# Altium schematic symbol library analogmushroom.SchLib: 107 symbols (part 2 of 2)
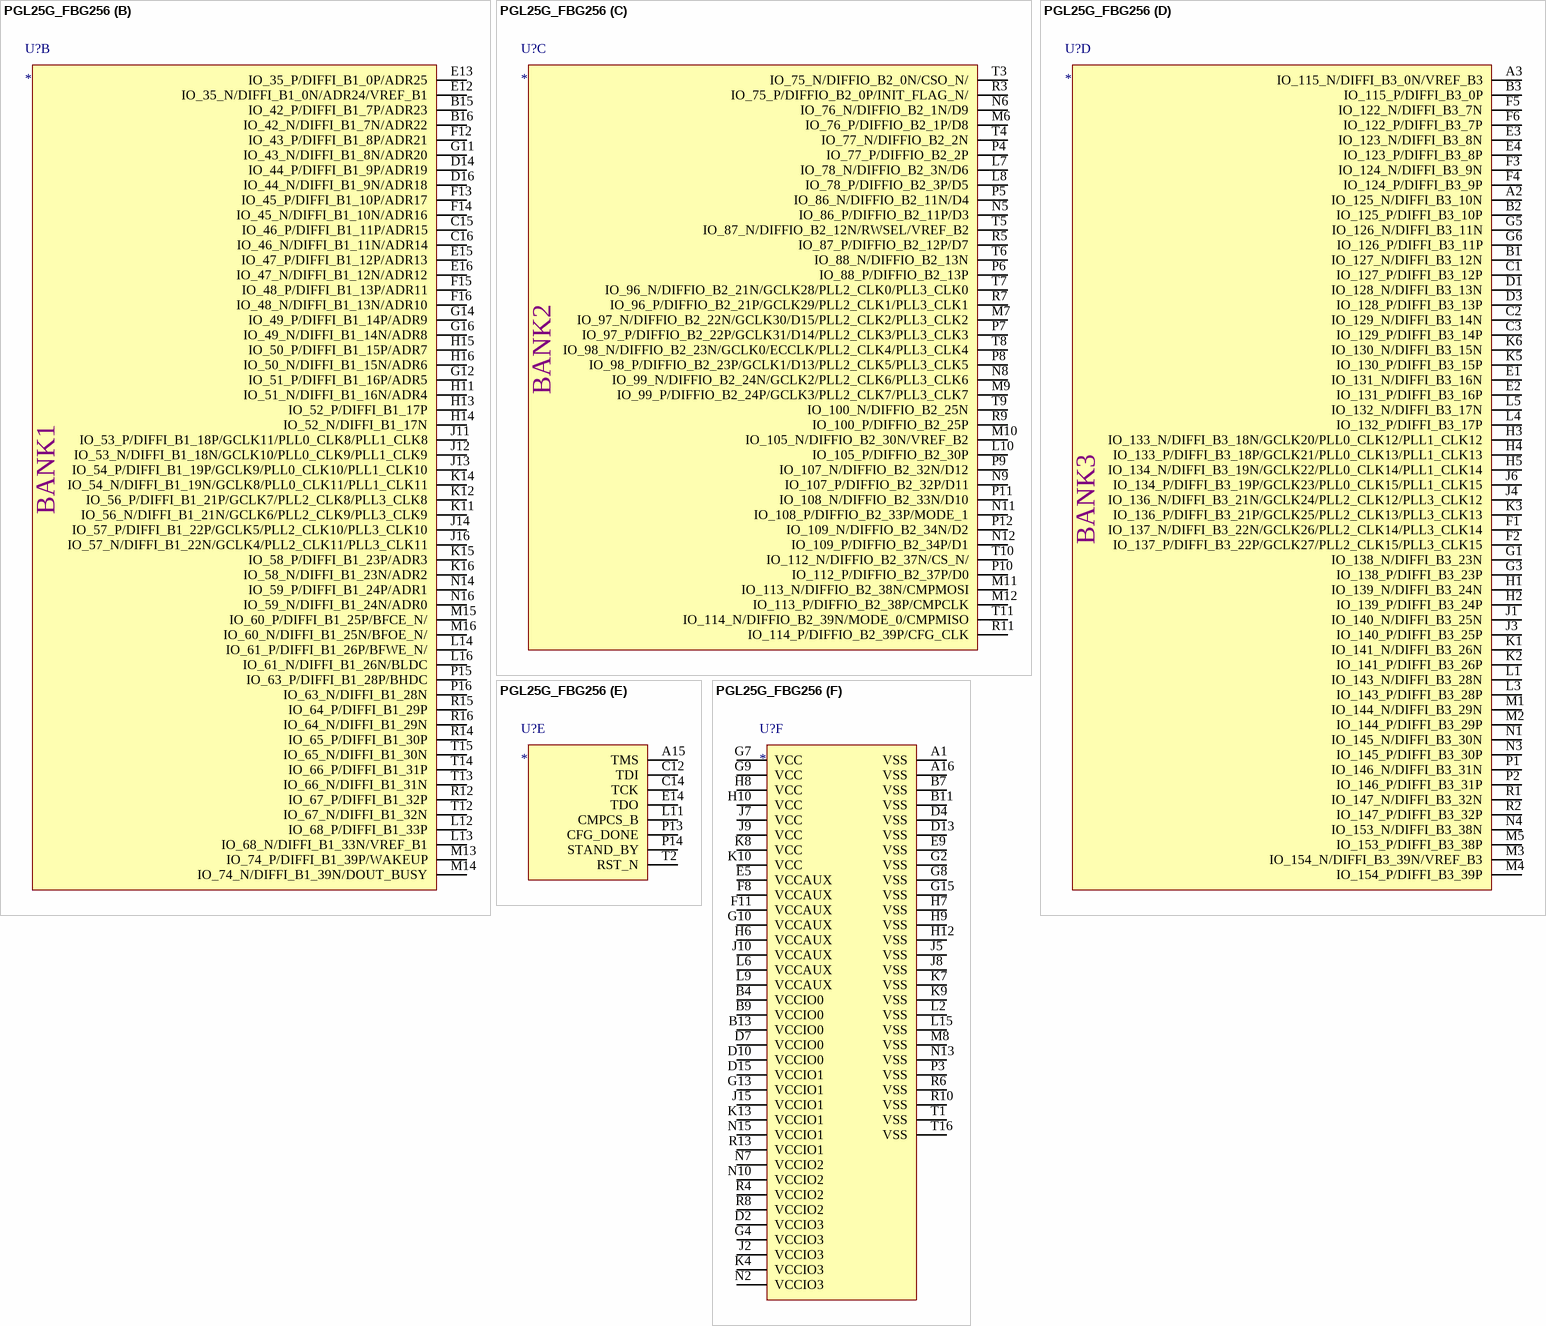
[diagram p17: symbol PGL25G_FBG256]

## PGL25G_FBG256
designator U?
footprint BGA17x17-256 (BGA, 256-Leads, Body 17.00x17.00mmx1.43mm, Pitch 1.00mm)
part A pins: A4 IO_1_N/DIFFIO_B0_0N/VREF_B0, A5 IO_2_N/DIFFIO_B0_1N, A6 IO_4_N/DIFFIO_B0_3N, A7 IO_6_N/DIFFIO_B0_5N, A8 IO_15_N/DIFFIO_B0_14N, A9 IO_16_N/DIFFIO_B0_15N/GCLK18/PLL0_CLK1/PLL1_CLK1, A10 IO_17_N/DIFFIO_B0_16N/GCLK16/PLL0_CLK3/PLL1_CLK3, A11 IO_21_N/DIFFIO_B0_20N, A12 IO_30_N/DIFFIO_B0_29N/VREF_B0, A13 IO_31_N/DIFFIO_B0_30N/STB_CTRL6, A14 IO_33_N/DIFFIO_B0_32N/STB_CTRL2, B5 IO_2_P/DIFFIO_B0_1P, B6 IO_4_P/DIFFIO_B0_3P, B8 IO_15_P/DIFFIO_B0_14P, B10 IO_17_P/DIFFIO_B0_16P/GCLK17/PLL0_CLK2/PLL1_CLK2, B12 IO_30_P/DIFFIO_B0_29P, B14 IO_33_P/DIFFIO_B0_32P/STB_CTRL3, C4 IO_1_P/DIFFIO_B0_0P/IO_STATUS_C, C5 IO_3_N/DIFFIO_B0_2N, C6 IO_7_N/DIFFIO_B0_6N, C7 IO_6_P/DIFFIO_B0_5P, C8 IO_20_N/DIFFIO_B0_19N/VREF_B0, C9 IO_16_P/DIFFIO_B0_15P/GCLK19/PLL0_CLK0/PLL1_CLK0, C10 IO_19_N/DIFFIO_B0_18N/GCLK12/PLL0_CLK7/PLL1_CLK7, C11 IO_21_P/DIFFIO_B0_20P, C13 IO_31_P/DIFFIO_B0_30P/STB_CTRL7, D5 IO_3_P/DIFFIO_B0_2P, D6 IO_7_P/DIFFIO_B0_6P, D8 IO_20_P/DIFFIO_B0_19P, D9 IO_22_N/DIFFIO_B0_21N, D11 IO_34_P/DIFFIO_B0_33P/STB_CTRL1, D12 IO_34_N/DIFFIO_B0_33N/STB_CTRL0, E6 IO_5_N/DIFFIO_B0_4N, E7 IO_18_P/DIFFIO_B0_17P/GCLK15/PLL0_CLK4/PLL1_CLK4, E8 IO_18_N/DIFFIO_B0_17N/GCLK14/PLL0_CLK5/PLL1_CLK5, E10 IO_19_P/DIFFIO_B0_18P/GCLK13/PLL0_CLK6/PLL1_CLK6, E11 IO_32_N/DIFFIO_B0_31N/STB_CTRL4, F7 IO_5_P/DIFFIO_B0_4P, F9 IO_22_P/DIFFIO_B0_21P, F10 IO_32_P/DIFFIO_B0_31P/STB_CTRL5
part B pins: B15 IO_42_P/DIFFI_B1_7P/ADR23, B16 IO_42_N/DIFFI_B1_7N/ADR22, C15 IO_46_P/DIFFI_B1_11P/ADR15, C16 IO_46_N/DIFFI_B1_11N/ADR14, D14 IO_44_P/DIFFI_B1_9P/ADR19, D16 IO_44_N/DIFFI_B1_9N/ADR18, E12 IO_35_N/DIFFI_B1_0N/ADR24/VREF_B1, E13 IO_35_P/DIFFI_B1_0P/ADR25, E15 IO_47_P/DIFFI_B1_12P/ADR13, E16 IO_47_N/DIFFI_B1_12N/ADR12, F12 IO_43_P/DIFFI_B1_8P/ADR21, F13 IO_45_P/DIFFI_B1_10P/ADR17, F14 IO_45_N/DIFFI_B1_10N/ADR16, F15 IO_48_P/DIFFI_B1_13P/ADR11, F16 IO_48_N/DIFFI_B1_13N/ADR10, G11 IO_43_N/DIFFI_B1_8N/ADR20, G12 IO_51_P/DIFFI_B1_16P/ADR5, G14 IO_49_P/DIFFI_B1_14P/ADR9, G16 IO_49_N/DIFFI_B1_14N/ADR8, H11 IO_51_N/DIFFI_B1_16N/ADR4, H13 IO_52_P/DIFFI_B1_17P, H14 IO_52_N/DIFFI_B1_17N, H15 IO_50_P/DIFFI_B1_15P/ADR7, H16 IO_50_N/DIFFI_B1_15N/ADR6, J11 IO_53_P/DIFFI_B1_18P/GCLK11/PLL0_CLK8/PLL1_CLK8, J12 IO_53_N/DIFFI_B1_18N/GCLK10/PLL0_CLK9/PLL1_CLK9, J13 IO_54_P/DIFFI_B1_19P/GCLK9/PLL0_CLK10/PLL1_CLK10, J14 IO_57_P/DIFFI_B1_22P/GCLK5/PLL2_CLK10/PLL3_CLK10, J16 IO_57_N/DIFFI_B1_22N/GCLK4/PLL2_CLK11/PLL3_CLK11, K11 IO_56_N/DIFFI_B1_21N/GCLK6/PLL2_CLK9/PLL3_CLK9, K12 IO_56_P/DIFFI_B1_21P/GCLK7/PLL2_CLK8/PLL3_CLK8, K14 IO_54_N/DIFFI_B1_19N/GCLK8/PLL0_CLK11/PLL1_CLK11, K15 IO_58_P/DIFFI_B1_23P/ADR3, K16 IO_58_N/DIFFI_B1_23N/ADR2, L12 IO_68_P/DIFFI_B1_33P, L13 IO_68_N/DIFFI_B1_33N/VREF_B1, L14 IO_61_P/DIFFI_B1_26P/BFWE_N/, L16 IO_61_N/DIFFI_B1_26N/BLDC, M13 IO_74_P/DIFFI_B1_39P/WAKEUP, M14 IO_74_N/DIFFI_B1_39N/DOUT_BUSY, M15 IO_60_P/DIFFI_B1_25P/BFCE_N/, M16 IO_60_N/DIFFI_B1_25N/BFOE_N/, N14 IO_59_P/DIFFI_B1_24P/ADR1, N16 IO_59_N/DIFFI_B1_24N/ADR0, P15 IO_63_P/DIFFI_B1_28P/BHDC, P16 IO_63_N/DIFFI_B1_28N, R12 IO_67_P/DIFFI_B1_32P, R14 IO_65_P/DIFFI_B1_30P, R15 IO_64_P/DIFFI_B1_29P, R16 IO_64_N/DIFFI_B1_29N, T12 IO_67_N/DIFFI_B1_32N, T13 IO_66_N/DIFFI_B1_31N, T14 IO_66_P/DIFFI_B1_31P, T15 IO_65_N/DIFFI_B1_30N
part C pins: L7 IO_78_N/DIFFIO_B2_3N/D6, L8 IO_78_P/DIFFIO_B2_3P/D5, L10 IO_105_P/DIFFIO_B2_30P, M6 IO_76_P/DIFFIO_B2_1P/D8, M7 IO_97_N/DIFFIO_B2_22N/GCLK30/D15/PLL2_CLK2/PLL3_CLK2, M9 IO_99_P/DIFFIO_B2_24P/GCLK3/PLL2_CLK7/PLL3_CLK7, M10 IO_105_N/DIFFIO_B2_30N/VREF_B2, M11 IO_113_N/DIFFIO_B2_38N/CMPMOSI, M12 IO_113_P/DIFFIO_B2_38P/CMPCLK, N5 IO_86_P/DIFFIO_B2_11P/D3, N6 IO_76_N/DIFFIO_B2_1N/D9, N8 IO_99_N/DIFFIO_B2_24N/GCLK2/PLL2_CLK6/PLL3_CLK6, N9 IO_107_P/DIFFIO_B2_32P/D11, N11 IO_108_P/DIFFIO_B2_33P/MODE_1, N12 IO_109_P/DIFFIO_B2_34P/D1, P4 IO_77_P/DIFFIO_B2_2P, P5 IO_86_N/DIFFIO_B2_11N/D4, P6 IO_88_P/DIFFIO_B2_13P, P7 IO_97_P/DIFFIO_B2_22P/GCLK31/D14/PLL2_CLK3/PLL3_CLK3, P8 IO_98_P/DIFFIO_B2_23P/GCLK1/D13/PLL2_CLK5/PLL3_CLK5, P9 IO_107_N/DIFFIO_B2_32N/D12, P10 IO_112_P/DIFFIO_B2_37P/D0, P11 IO_108_N/DIFFIO_B2_33N/D10, P12 IO_109_N/DIFFIO_B2_34N/D2, R3 IO_75_P/DIFFIO_B2_0P/INIT_FLAG_N/, R5 IO_87_P/DIFFIO_B2_12P/D7, R7 IO_96_P/DIFFIO_B2_21P/GCLK29/PLL2_CLK1/PLL3_CLK1, R9 IO_100_P/DIFFIO_B2_25P, R11 IO_114_P/DIFFIO_B2_39P/CFG_CLK, T3 IO_75_N/DIFFIO_B2_0N/CSO_N/, T4 IO_77_N/DIFFIO_B2_2N, T5 IO_87_N/DIFFIO_B2_12N/RWSEL/VREF_B2, T6 IO_88_N/DIFFIO_B2_13N, T7 IO_96_N/DIFFIO_B2_21N/GCLK28/PLL2_CLK0/PLL3_CLK0, T8 IO_98_N/DIFFIO_B2_23N/GCLK0/ECCLK/PLL2_CLK4/PLL3_CLK4, T9 IO_100_N/DIFFIO_B2_25N, T10 IO_112_N/DIFFIO_B2_37N/CS_N/, T11 IO_114_N/DIFFIO_B2_39N/MODE_0/CMPMISO
part D pins: A2 IO_125_N/DIFFI_B3_10N, A3 IO_115_N/DIFFI_B3_0N/VREF_B3, B1 IO_127_N/DIFFI_B3_12N, B2 IO_125_P/DIFFI_B3_10P, B3 IO_115_P/DIFFI_B3_0P, C1 IO_127_P/DIFFI_B3_12P, C2 IO_129_N/DIFFI_B3_14N, C3 IO_129_P/DIFFI_B3_14P, D1 IO_128_N/DIFFI_B3_13N, D3 IO_128_P/DIFFI_B3_13P, E1 IO_131_N/DIFFI_B3_16N, E2 IO_131_P/DIFFI_B3_16P, E3 IO_123_N/DIFFI_B3_8N, E4 IO_123_P/DIFFI_B3_8P, F1 IO_137_N/DIFFI_B3_22N/GCLK26/PLL2_CLK14/PLL3_CLK14, F2 IO_137_P/DIFFI_B3_22P/GCLK27/PLL2_CLK15/PLL3_CLK15, F3 IO_124_N/DIFFI_B3_9N, F4 IO_124_P/DIFFI_B3_9P, F5 IO_122_N/DIFFI_B3_7N, F6 IO_122_P/DIFFI_B3_7P, G1 IO_138_N/DIFFI_B3_23N, G3 IO_138_P/DIFFI_B3_23P, G5 IO_126_N/DIFFI_B3_11N, G6 IO_126_P/DIFFI_B3_11P, H1 IO_139_N/DIFFI_B3_24N, H2 IO_139_P/DIFFI_B3_24P, H3 IO_133_N/DIFFI_B3_18N/GCLK20/PLL0_CLK12/PLL1_CLK12, H4 IO_133_P/DIFFI_B3_18P/GCLK21/PLL0_CLK13/PLL1_CLK13, H5 IO_134_N/DIFFI_B3_19N/GCLK22/PLL0_CLK14/PLL1_CLK14, J1 IO_140_N/DIFFI_B3_25N, J3 IO_140_P/DIFFI_B3_25P, J4 IO_136_N/DIFFI_B3_21N/GCLK24/PLL2_CLK12/PLL3_CLK12, J6 IO_134_P/DIFFI_B3_19P/GCLK23/PLL0_CLK15/PLL1_CLK15, K1 IO_141_N/DIFFI_B3_26N, K2 IO_141_P/DIFFI_B3_26P, K3 IO_136_P/DIFFI_B3_21P/GCLK25/PLL2_CLK13/PLL3_CLK13, K5 IO_130_P/DIFFI_B3_15P, K6 IO_130_N/DIFFI_B3_15N, L1 IO_143_N/DIFFI_B3_28N, L3 IO_143_P/DIFFI_B3_28P, L4 IO_132_P/DIFFI_B3_17P, L5 IO_132_N/DIFFI_B3_17N, M1 IO_144_N/DIFFI_B3_29N, M2 IO_144_P/DIFFI_B3_29P, M3 IO_154_N/DIFFI_B3_39N/VREF_B3, M4 IO_154_P/DIFFI_B3_39P, M5 IO_153_P/DIFFI_B3_38P, N1 IO_145_N/DIFFI_B3_30N, N3 IO_145_P/DIFFI_B3_30P, N4 IO_153_N/DIFFI_B3_38N, P1 IO_146_N/DIFFI_B3_31N, P2 IO_146_P/DIFFI_B3_31P, R1 IO_147_N/DIFFI_B3_32N, R2 IO_147_P/DIFFI_B3_32P
part E pins: A15 TMS, C12 TDI, C14 TCK, E14 TDO, L11 CMPCS_B, P13 CFG_DONE, P14 STAND_BY, T2 RST_N
part F pins: A1 VSS, A16 VSS, B4 VCCIO0, B7 VSS, B9 VCCIO0, B11 VSS, B13 VCCIO0, D2 VCCIO3, D4 VSS, D7 VCCIO0, D10 VCCIO0, D13 VSS, D15 VCCIO1, E5 VCCAUX, E9 VSS, F8 VCCAUX, F11 VCCAUX, G2 VSS, G4 VCCIO3, G7 VCC, G8 VSS, G9 VCC, G10 VCCAUX, G13 VCCIO1, G15 VSS, H6 VCCAUX, H7 VSS, H8 VCC, H9 VSS, H10 VCC, H12 VSS, J2 VCCIO3, J5 VSS, J7 VCC, J8 VSS, J9 VCC, J10 VCCAUX, J15 VCCIO1, K4 VCCIO3, K7 VSS, K8 VCC, K9 VSS, K10 VCC, K13 VCCIO1, L2 VSS, L6 VCCAUX, L9 VCCAUX, L15 VSS, M8 VSS, N2 VCCIO3, N7 VCCIO2, N10 VCCIO2, N13 VSS, N15 VCCIO1, P3 VSS, R4 VCCIO2, R6 VSS, R8 VCCIO2, R10 VSS, R13 VCCIO1, T1 VSS, T16 VSS
part A text: BANK0
part B text: BANK1
part C text: BANK2
part D text: BANK3

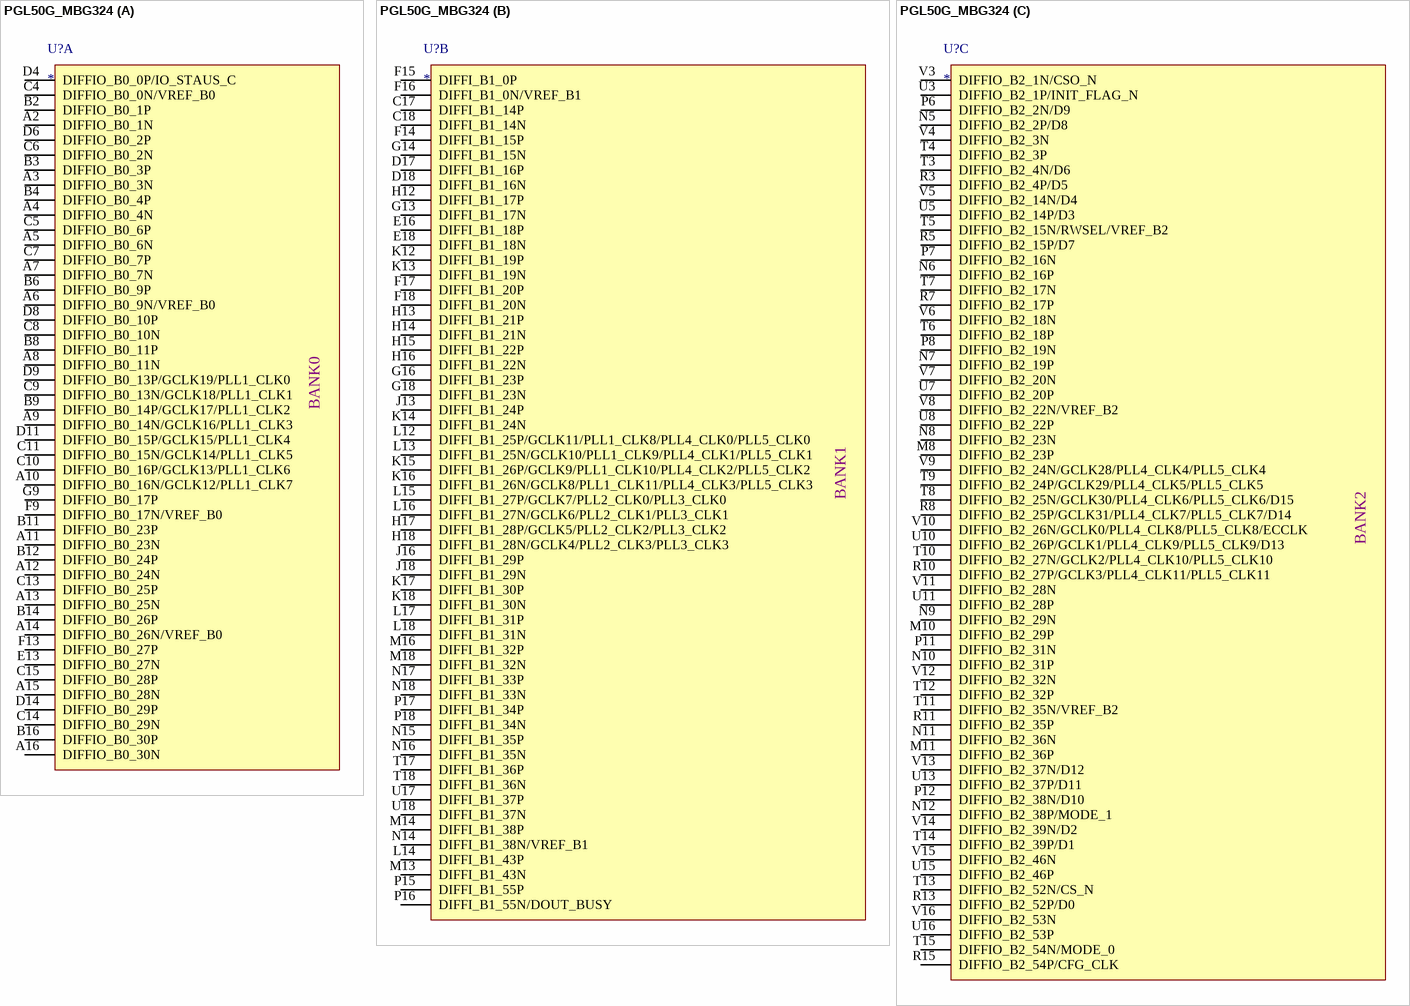
[diagram p10: symbol PGL50G_MBG324]

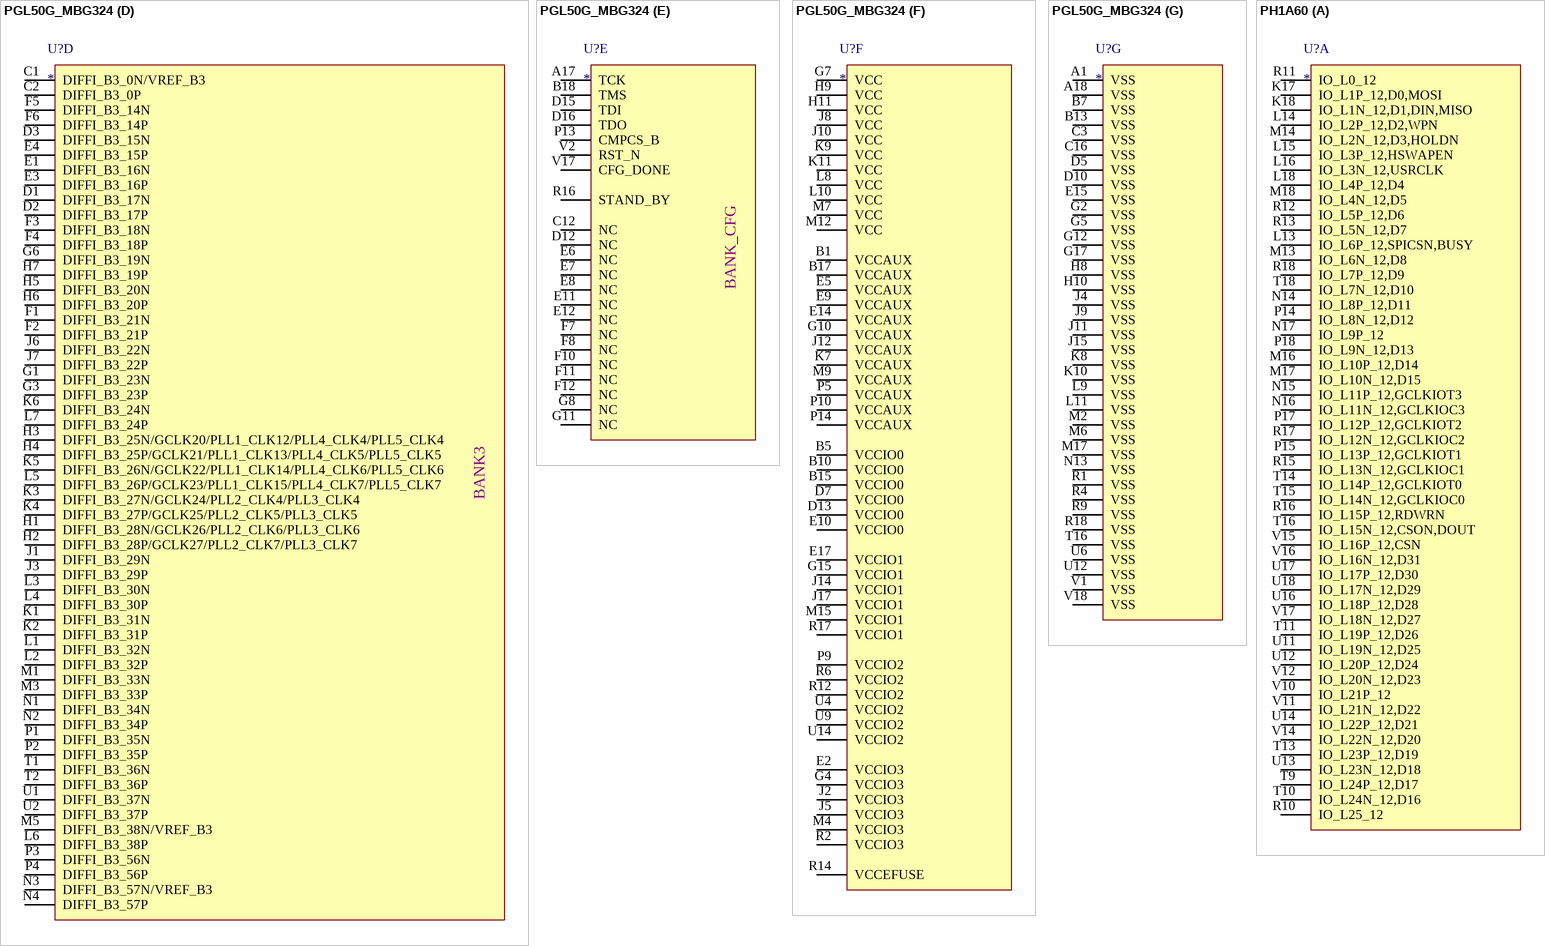
[diagram p11: symbols PGL50G_MBG324 to PH1A60]

## PGL50G_MBG324
designator U?
FPGA
footprint BGA15x15-324
part A pins: A2 DIFFIO_B0_1N, A3 DIFFIO_B0_3N, A4 DIFFIO_B0_4N, A5 DIFFIO_B0_6N, A6 DIFFIO_B0_9N/VREF_B0, A7 DIFFIO_B0_7N, A8 DIFFIO_B0_11N, A9 DIFFIO_B0_14N/GCLK16/PLL1_CLK3, A10 DIFFIO_B0_16N/GCLK12/PLL1_CLK7, A11 DIFFIO_B0_23N, A12 DIFFIO_B0_24N, A13 DIFFIO_B0_25N, A14 DIFFIO_B0_26N/VREF_B0, A15 DIFFIO_B0_28N, A16 DIFFIO_B0_30N, B2 DIFFIO_B0_1P, B3 DIFFIO_B0_3P, B4 DIFFIO_B0_4P, B6 DIFFIO_B0_9P, B8 DIFFIO_B0_11P, B9 DIFFIO_B0_14P/GCLK17/PLL1_CLK2, B11 DIFFIO_B0_23P, B12 DIFFIO_B0_24P, B14 DIFFIO_B0_26P, B16 DIFFIO_B0_30P, C4 DIFFIO_B0_0N/VREF_B0, C5 DIFFIO_B0_6P, C6 DIFFIO_B0_2N, C7 DIFFIO_B0_7P, C8 DIFFIO_B0_10N, C9 DIFFIO_B0_13N/GCLK18/PLL1_CLK1, C10 DIFFIO_B0_16P/GCLK13/PLL1_CLK6, C11 DIFFIO_B0_15N/GCLK14/PLL1_CLK5, C13 DIFFIO_B0_25P, C14 DIFFIO_B0_29N, C15 DIFFIO_B0_28P, D4 DIFFIO_B0_0P/IO_STAUS_C, D6 DIFFIO_B0_2P, D8 DIFFIO_B0_10P, D9 DIFFIO_B0_13P/GCLK19/PLL1_CLK0, D11 DIFFIO_B0_15P/GCLK15/PLL1_CLK4, D14 DIFFIO_B0_29P, E13 DIFFIO_B0_27N, F9 DIFFIO_B0_17N/VREF_B0, F13 DIFFIO_B0_27P, G9 DIFFIO_B0_17P
part B pins: C17 DIFFI_B1_14P, C18 DIFFI_B1_14N, D17 DIFFI_B1_16P, D18 DIFFI_B1_16N, E16 DIFFI_B1_18P, E18 DIFFI_B1_18N, F14 DIFFI_B1_15P, F15 DIFFI_B1_0P, F16 DIFFI_B1_0N/VREF_B1, F17 DIFFI_B1_20P, F18 DIFFI_B1_20N, G13 DIFFI_B1_17N, G14 DIFFI_B1_15N, G16 DIFFI_B1_23P, G18 DIFFI_B1_23N, H12 DIFFI_B1_17P, H13 DIFFI_B1_21P, H14 DIFFI_B1_21N, H15 DIFFI_B1_22P, H16 DIFFI_B1_22N, H17 DIFFI_B1_28P/GCLK5/PLL2_CLK2/PLL3_CLK2, H18 DIFFI_B1_28N/GCLK4/PLL2_CLK3/PLL3_CLK3, J13 DIFFI_B1_24P, J16 DIFFI_B1_29P, J18 DIFFI_B1_29N, K12 DIFFI_B1_19P, K13 DIFFI_B1_19N, K14 DIFFI_B1_24N, K15 DIFFI_B1_26P/GCLK9/PLL1_CLK10/PLL4_CLK2/PLL5_CLK2, K16 DIFFI_B1_26N/GCLK8/PLL1_CLK11/PLL4_CLK3/PLL5_CLK3, K17 DIFFI_B1_30P, K18 DIFFI_B1_30N, L12 DIFFI_B1_25P/GCLK11/PLL1_CLK8/PLL4_CLK0/PLL5_CLK0, L13 DIFFI_B1_25N/GCLK10/PLL1_CLK9/PLL4_CLK1/PLL5_CLK1, L14 DIFFI_B1_43P, L15 DIFFI_B1_27P/GCLK7/PLL2_CLK0/PLL3_CLK0, L16 DIFFI_B1_27N/GCLK6/PLL2_CLK1/PLL3_CLK1, L17 DIFFI_B1_31P, L18 DIFFI_B1_31N, M13 DIFFI_B1_43N, M14 DIFFI_B1_38P, M16 DIFFI_B1_32P, M18 DIFFI_B1_32N, N14 DIFFI_B1_38N/VREF_B1, N15 DIFFI_B1_35P, N16 DIFFI_B1_35N, N17 DIFFI_B1_33P, N18 DIFFI_B1_33N, P15 DIFFI_B1_55P, P16 DIFFI_B1_55N/DOUT_BUSY, P17 DIFFI_B1_34P, P18 DIFFI_B1_34N, T17 DIFFI_B1_36P, T18 DIFFI_B1_36N, U17 DIFFI_B1_37P, U18 DIFFI_B1_37N
part C pins: M8 DIFFIO_B2_23P, M10 DIFFIO_B2_29P, M11 DIFFIO_B2_36P, N5 DIFFIO_B2_2P/D8, N6 DIFFIO_B2_16P, N7 DIFFIO_B2_19P, N8 DIFFIO_B2_23N, N9 DIFFIO_B2_29N, N10 DIFFIO_B2_31P, N11 DIFFIO_B2_36N, N12 DIFFIO_B2_38P/MODE_1, P6 DIFFIO_B2_2N/D9, P7 DIFFIO_B2_16N, P8 DIFFIO_B2_19N, P11 DIFFIO_B2_31N, P12 DIFFIO_B2_38N/D10, R3 DIFFIO_B2_4P/D5, R5 DIFFIO_B2_15P/D7, R7 DIFFIO_B2_17P, R8 DIFFIO_B2_25P/GCLK31/PLL4_CLK7/PLL5_CLK7/D14, R10 DIFFIO_B2_27P/GCLK3/PLL4_CLK11/PLL5_CLK11, R11 DIFFIO_B2_35P, R13 DIFFIO_B2_52P/D0, R15 DIFFIO_B2_54P/CFG_CLK, T3 DIFFIO_B2_4N/D6, T4 DIFFIO_B2_3P, T5 DIFFIO_B2_15N/RWSEL/VREF_B2, T6 DIFFIO_B2_18P, T7 DIFFIO_B2_17N, T8 DIFFIO_B2_25N/GCLK30/PLL4_CLK6/PLL5_CLK6/D15, T9 DIFFIO_B2_24P/GCLK29/PLL4_CLK5/PLL5_CLK5, T10 DIFFIO_B2_27N/GCLK2/PLL4_CLK10/PLL5_CLK10, T11 DIFFIO_B2_35N/VREF_B2, T12 DIFFIO_B2_32P, T13 DIFFIO_B2_52N/CS_N, T14 DIFFIO_B2_39P/D1, T15 DIFFIO_B2_54N/MODE_0, U3 DIFFIO_B2_1P/INIT_FLAG_N, U5 DIFFIO_B2_14P/D3, U7 DIFFIO_B2_20P, U8 DIFFIO_B2_22P, U10 DIFFIO_B2_26P/GCLK1/PLL4_CLK9/PLL5_CLK9/D13, U11 DIFFIO_B2_28P, U13 DIFFIO_B2_37P/D11, U15 DIFFIO_B2_46P, U16 DIFFIO_B2_53P, V3 DIFFIO_B2_1N/CSO_N, V4 DIFFIO_B2_3N, V5 DIFFIO_B2_14N/D4, V6 DIFFIO_B2_18N, V7 DIFFIO_B2_20N, V8 DIFFIO_B2_22N/VREF_B2, V9 DIFFIO_B2_24N/GCLK28/PLL4_CLK4/PLL5_CLK4, V10 DIFFIO_B2_26N/GCLK0/PLL4_CLK8/PLL5_CLK8/ECCLK, V11 DIFFIO_B2_28N, V12 DIFFIO_B2_32N, V13 DIFFIO_B2_37N/D12, V14 DIFFIO_B2_39N/D2, V15 DIFFIO_B2_46N, V16 DIFFIO_B2_53N
part D pins: C1 DIFFI_B3_0N/VREF_B3, C2 DIFFI_B3_0P, D1 DIFFI_B3_17N, D2 DIFFI_B3_17P, D3 DIFFI_B3_15N, E1 DIFFI_B3_16N, E3 DIFFI_B3_16P, E4 DIFFI_B3_15P, F1 DIFFI_B3_21N, F2 DIFFI_B3_21P, F3 DIFFI_B3_18N, F4 DIFFI_B3_18P, F5 DIFFI_B3_14N, F6 DIFFI_B3_14P, G1 DIFFI_B3_23N, G3 DIFFI_B3_23P, G6 DIFFI_B3_19N, H1 DIFFI_B3_28N/GCLK26/PLL2_CLK6/PLL3_CLK6, H2 DIFFI_B3_28P/GCLK27/PLL2_CLK7/PLL3_CLK7, H3 DIFFI_B3_25N/GCLK20/PLL1_CLK12/PLL4_CLK4/PLL5_CLK4, H4 DIFFI_B3_25P/GCLK21/PLL1_CLK13/PLL4_CLK5/PLL5_CLK5, H5 DIFFI_B3_20N, H6 DIFFI_B3_20P, H7 DIFFI_B3_19P, J1 DIFFI_B3_29N, J3 DIFFI_B3_29P, J6 DIFFI_B3_22N, J7 DIFFI_B3_22P, K1 DIFFI_B3_31N, K2 DIFFI_B3_31P, K3 DIFFI_B3_27N/GCLK24/PLL2_CLK4/PLL3_CLK4, K4 DIFFI_B3_27P/GCLK25/PLL2_CLK5/PLL3_CLK5, K5 DIFFI_B3_26N/GCLK22/PLL1_CLK14/PLL4_CLK6/PLL5_CLK6, K6 DIFFI_B3_24N, L1 DIFFI_B3_32N, L2 DIFFI_B3_32P, L3 DIFFI_B3_30N, L4 DIFFI_B3_30P, L5 DIFFI_B3_26P/GCLK23/PLL1_CLK15/PLL4_CLK7/PLL5_CLK7, L6 DIFFI_B3_38P, L7 DIFFI_B3_24P, M1 DIFFI_B3_33N, M3 DIFFI_B3_33P, M5 DIFFI_B3_38N/VREF_B3, N1 DIFFI_B3_34N, N2 DIFFI_B3_34P, N3 DIFFI_B3_57N/VREF_B3, N4 DIFFI_B3_57P, P1 DIFFI_B3_35N, P2 DIFFI_B3_35P, P3 DIFFI_B3_56N, P4 DIFFI_B3_56P, T1 DIFFI_B3_36N, T2 DIFFI_B3_36P, U1 DIFFI_B3_37N, U2 DIFFI_B3_37P
part E pins: A17 TCK, B18 TMS, C12 NC, D12 NC, D15 TDI, D16 TDO, E6 NC, E7 NC, E8 NC, E11 NC, E12 NC, F7 NC, F8 NC, F10 NC, F11 NC, F12 NC, G8 NC, G11 NC, P13 CMPCS_B, R16 STAND_BY, V2 RST_N, V17 CFG_DONE
part F pins: B1 VCCAUX, B5 VCCIO0, B10 VCCIO0, B15 VCCIO0, B17 VCCAUX, D7 VCCIO0, D13 VCCIO0, E2 VCCIO3, E5 VCCAUX, E9 VCCAUX, E10 VCCIO0, E14 VCCAUX, E17 VCCIO1, G4 VCCIO3, G7 VCC, G10 VCCAUX, G15 VCCIO1, H9 VCC, H11 VCC, J2 VCCIO3, J5 VCCIO3, J8 VCC, J10 VCC, J12 VCCAUX, J14 VCCIO1, J17 VCCIO1, K7 VCCAUX, K9 VCC, K11 VCC, L8 VCC, L10 VCC, M4 VCCIO3, M7 VCC, M9 VCCAUX, M12 VCC, M15 VCCIO1, P5 VCCAUX, P9 VCCIO2, P10 VCCAUX, P14 VCCAUX, R2 VCCIO3, R6 VCCIO2, R12 VCCIO2, R14 VCCEFUSE, R17 VCCIO1, U4 VCCIO2, U9 VCCIO2, U14 VCCIO2
part G pins: A1 VSS, A18 VSS, B7 VSS, B13 VSS, C3 VSS, C16 VSS, D5 VSS, D10 VSS, E15 VSS, G2 VSS, G5 VSS, G12 VSS, G17 VSS, H8 VSS, H10 VSS, J4 VSS, J9 VSS, J11 VSS, J15 VSS, K8 VSS, K10 VSS, L9 VSS, L11 VSS, M2 VSS, M6 VSS, M17 VSS, N13 VSS, R1 VSS, R4 VSS, R9 VSS, R18 VSS, T16 VSS, U6 VSS, U12 VSS, V1 VSS, V18 VSS
part A text: BANK0
part B text: BANK1
part C text: BANK2
part D text: BANK3
part E text: BANK_CFG

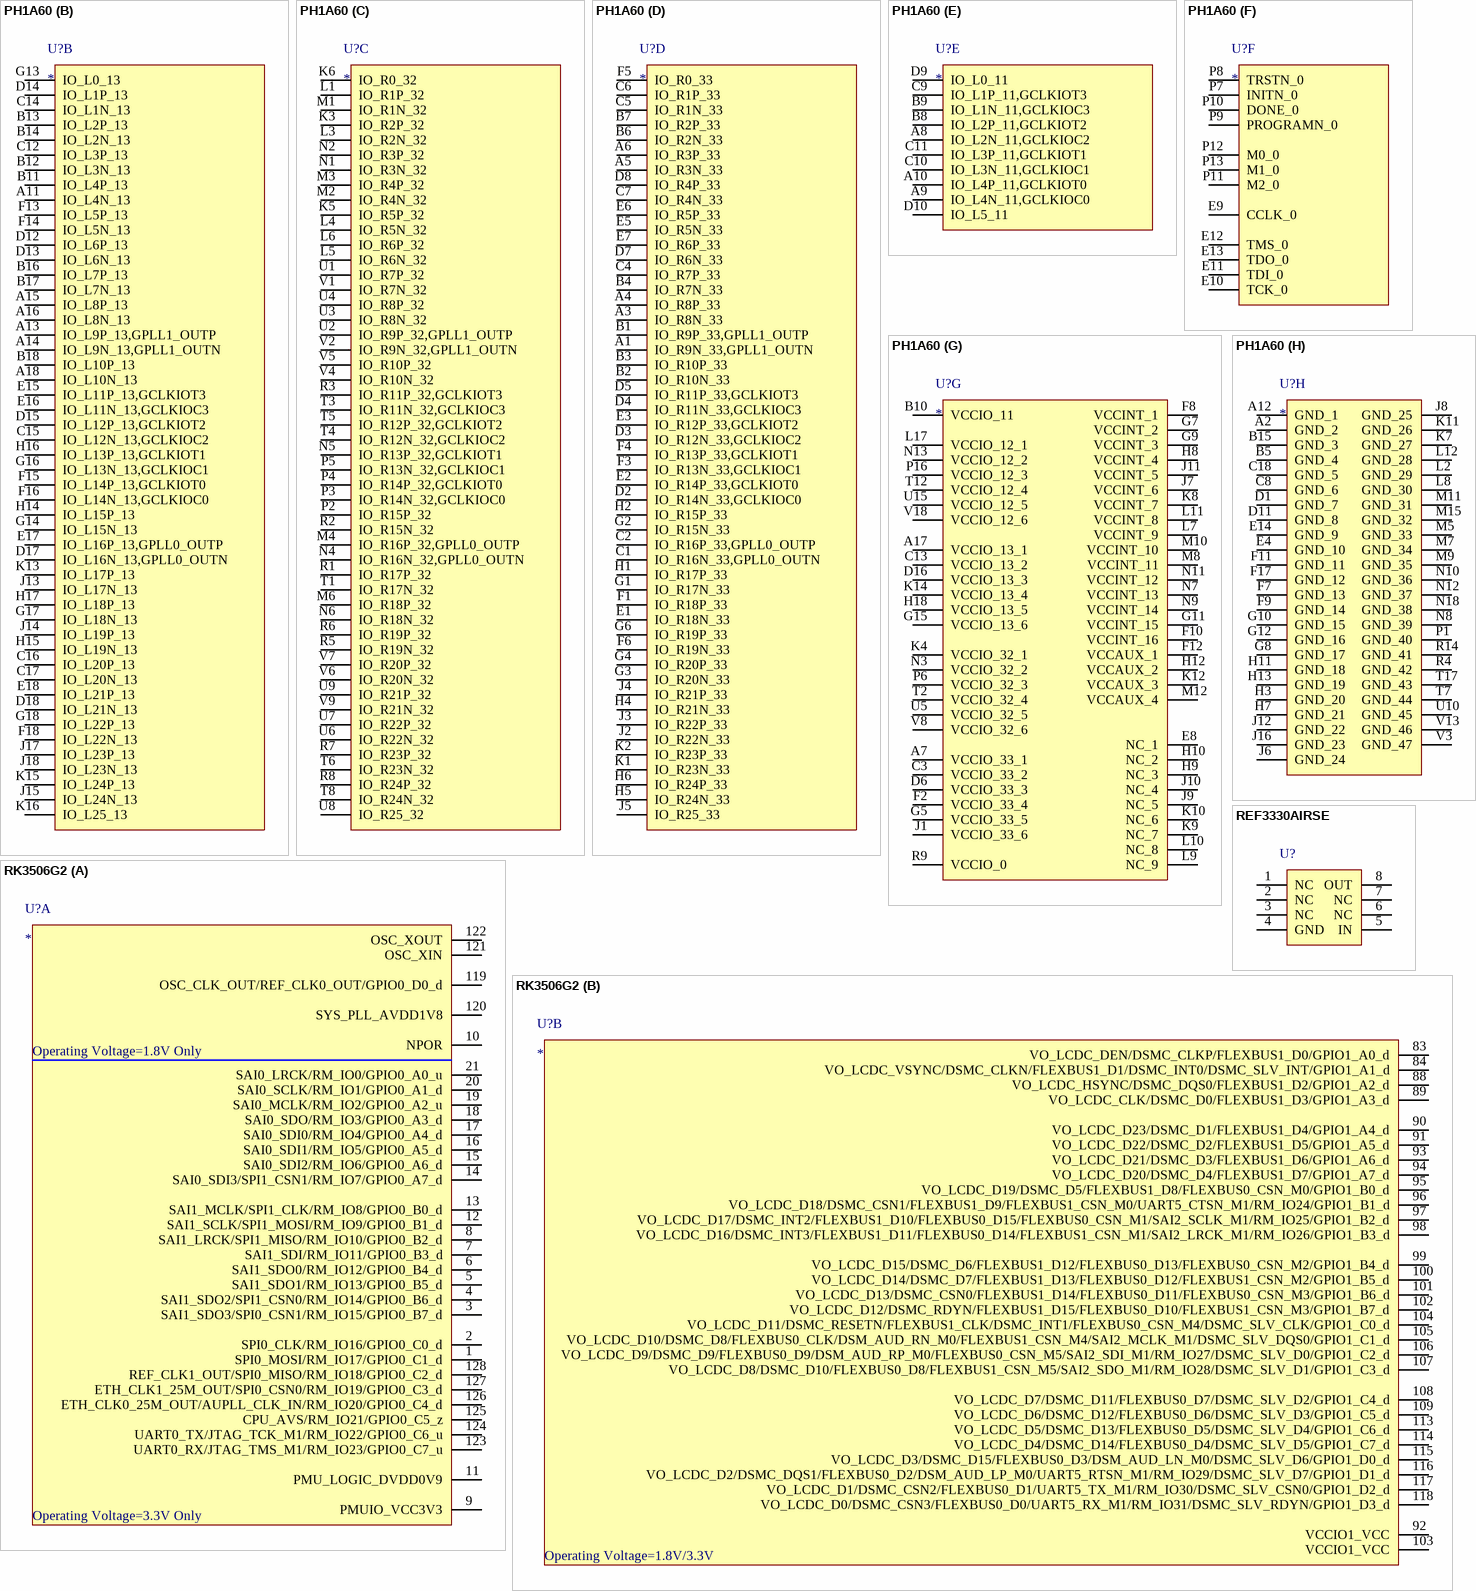
[diagram p12: symbols PH1A60 to RK3506G2]

## PH1A60
designator U?
footprint BGA15x15-324
part A pins: K17 IO_L1P_12,D0,MOSI, K18 IO_L1N_12,D1,DIN,MISO, L13 IO_L6P_12,SPICSN,BUSY, L14 IO_L2P_12,D2,WPN, L15 IO_L3P_12,HSWAPEN, L16 IO_L3N_12,USRCLK, L18 IO_L4P_12,D4, M13 IO_L6N_12,D8, M14 IO_L2N_12,D3,HOLDN, M16 IO_L10P_12,D14, M17 IO_L10N_12,D15, M18 IO_L4N_12,D5, N14 IO_L8P_12,D11, N15 IO_L11P_12,GCLKIOT3, N16 IO_L11N_12,GCLKIOC3, N17 IO_L9P_12, P14 IO_L8N_12,D12, P15 IO_L13P_12,GCLKIOT1, P17 IO_L12P_12,GCLKIOT2, P18 IO_L9N_12,D13, R10 IO_L25_12, R11 IO_L0_12, R12 IO_L5P_12,D6, R13 IO_L5N_12,D7, R15 IO_L13N_12,GCLKIOC1, R16 IO_L15P_12,RDWRN, R17 IO_L12N_12,GCLKIOC2, R18 IO_L7P_12,D9, T9 IO_L24P_12,D17, T10 IO_L24N_12,D16, T11 IO_L19P_12,D26, T13 IO_L23P_12,D19, T14 IO_L14P_12,GCLKIOT0, T15 IO_L14N_12,GCLKIOC0, T16 IO_L15N_12,CSON,DOUT, T18 IO_L7N_12,D10, U11 IO_L19N_12,D25, U12 IO_L20P_12,D24, U13 IO_L23N_12,D18, U14 IO_L22P_12,D21, U16 IO_L18P_12,D28, U17 IO_L17P_12,D30, U18 IO_L17N_12,D29, V10 IO_L21P_12, V11 IO_L21N_12,D22, V12 IO_L20N_12,D23, V14 IO_L22N_12,D20, V15 IO_L16P_12,CSN, V16 IO_L16N_12,D31, V17 IO_L18N_12,D27
part B pins: A11 IO_L4N_13, A13 IO_L9P_13,GPLL1_OUTP, A14 IO_L9N_13,GPLL1_OUTN, A15 IO_L8P_13, A16 IO_L8N_13, A18 IO_L10N_13, B11 IO_L4P_13, B12 IO_L3N_13, B13 IO_L2P_13, B14 IO_L2N_13, B16 IO_L7P_13, B17 IO_L7N_13, B18 IO_L10P_13, C12 IO_L3P_13, C14 IO_L1N_13, C15 IO_L12N_13,GCLKIOC2, C16 IO_L20P_13, C17 IO_L20N_13, D12 IO_L6P_13, D13 IO_L6N_13, D14 IO_L1P_13, D15 IO_L12P_13,GCLKIOT2, D17 IO_L16N_13,GPLL0_OUTN, D18 IO_L21N_13, E15 IO_L11P_13,GCLKIOT3, E16 IO_L11N_13,GCLKIOC3, E17 IO_L16P_13,GPLL0_OUTP, E18 IO_L21P_13, F13 IO_L5P_13, F14 IO_L5N_13, F15 IO_L14P_13,GCLKIOT0, F16 IO_L14N_13,GCLKIOC0, F18 IO_L22N_13, G13 IO_L0_13, G14 IO_L15N_13, G16 IO_L13N_13,GCLKIOC1, G17 IO_L18N_13, G18 IO_L22P_13, H14 IO_L15P_13, H15 IO_L19N_13, H16 IO_L13P_13,GCLKIOT1, H17 IO_L18P_13, J13 IO_L17N_13, J14 IO_L19P_13, J15 IO_L24N_13, J17 IO_L23P_13, J18 IO_L23N_13, K13 IO_L17P_13, K15 IO_L24P_13, K16 IO_L25_13
part C pins: K3 IO_R2P_32, K5 IO_R5P_32, K6 IO_R0_32, L1 IO_R1P_32, L3 IO_R2N_32, L4 IO_R5N_32, L5 IO_R6N_32, L6 IO_R6P_32, M1 IO_R1N_32, M2 IO_R4N_32, M3 IO_R4P_32, M4 IO_R16P_32,GPLL0_OUTP, M6 IO_R18P_32, N1 IO_R3N_32, N2 IO_R3P_32, N4 IO_R16N_32,GPLL0_OUTN, N5 IO_R13P_32,GCLKIOT1, N6 IO_R18N_32, P2 IO_R15P_32, P3 IO_R14N_32,GCLKIOC0, P4 IO_R14P_32,GCLKIOT0, P5 IO_R13N_32,GCLKIOC1, R1 IO_R17P_32, R2 IO_R15N_32, R3 IO_R11P_32,GCLKIOT3, R5 IO_R19N_32, R6 IO_R19P_32, R7 IO_R23P_32, R8 IO_R24P_32, T1 IO_R17N_32, T3 IO_R11N_32,GCLKIOC3, T4 IO_R12N_32,GCLKIOC2, T5 IO_R12P_32,GCLKIOT2, T6 IO_R23N_32, T8 IO_R24N_32, U1 IO_R7P_32, U2 IO_R9P_32,GPLL1_OUTP, U3 IO_R8N_32, U4 IO_R8P_32, U6 IO_R22N_32, U7 IO_R22P_32, U8 IO_R25_32, U9 IO_R21P_32, V1 IO_R7N_32, V2 IO_R9N_32,GPLL1_OUTN, V4 IO_R10N_32, V5 IO_R10P_32, V6 IO_R20N_32, V7 IO_R20P_32, V9 IO_R21N_32
part D pins: A1 IO_R9N_33,GPLL1_OUTN, A3 IO_R8N_33, A4 IO_R8P_33, A5 IO_R3N_33, A6 IO_R3P_33, B1 IO_R9P_33,GPLL1_OUTP, B2 IO_R10N_33, B3 IO_R10P_33, B4 IO_R7N_33, B6 IO_R2N_33, B7 IO_R2P_33, C1 IO_R16N_33,GPLL0_OUTN, C2 IO_R16P_33,GPLL0_OUTP, C4 IO_R7P_33, C5 IO_R1N_33, C6 IO_R1P_33, C7 IO_R4N_33, D2 IO_R14N_33,GCLKIOC0, D3 IO_R12N_33,GCLKIOC2, D4 IO_R11N_33,GCLKIOC3, D5 IO_R11P_33,GCLKIOT3, D7 IO_R6N_33, D8 IO_R4P_33, E1 IO_R18N_33, E2 IO_R14P_33,GCLKIOT0, E3 IO_R12P_33,GCLKIOT2, E5 IO_R5N_33, E6 IO_R5P_33, E7 IO_R6P_33, F1 IO_R18P_33, F3 IO_R13N_33,GCLKIOC1, F4 IO_R13P_33,GCLKIOT1, F5 IO_R0_33, F6 IO_R19N_33, G1 IO_R17N_33, G2 IO_R15N_33, G3 IO_R20N_33, G4 IO_R20P_33, G6 IO_R19P_33, H1 IO_R17P_33, H2 IO_R15P_33, H4 IO_R21N_33, H5 IO_R24N_33, H6 IO_R24P_33, J2 IO_R22N_33, J3 IO_R22P_33, J4 IO_R21P_33, J5 IO_R25_33, K1 IO_R23N_33, K2 IO_R23P_33
part E pins: A8 IO_L2N_11,GCLKIOC2, A9 IO_L4N_11,GCLKIOC0, A10 IO_L4P_11,GCLKIOT0, B8 IO_L2P_11,GCLKIOT2, B9 IO_L1N_11,GCLKIOC3, C9 IO_L1P_11,GCLKIOT3, C10 IO_L3N_11,GCLKIOC1, C11 IO_L3P_11,GCLKIOT1, D9 IO_L0_11, D10 IO_L5_11
part F pins: E9 CCLK_0, E10 TCK_0, E11 TDI_0, E12 TMS_0, E13 TDO_0, P7 INITN_0, P8 TRSTN_0, P9 PROGRAMN_0, P10 DONE_0, P11 M2_0, P12 M0_0, P13 M1_0
part G pins: A7 VCCIO_33_1, A17 VCCIO_13_1, B10 VCCIO_11, C3 VCCIO_33_2, C13 VCCIO_13_2, D6 VCCIO_33_3, D16 VCCIO_13_3, E8 NC_1, F2 VCCIO_33_4, F8 VCCINT_1, F10 VCCINT_16, F12 VCCAUX_1, G5 VCCIO_33_5, G7 VCCINT_2, G9 VCCINT_3, G11 VCCINT_15, G15 VCCIO_13_6, H8 VCCINT_4, H9 NC_3, H10 NC_2, H12 VCCAUX_2, H18 VCCIO_13_5, J1 VCCIO_33_6, J7 VCCINT_6, J9 NC_5, J10 NC_4, J11 VCCINT_5, K4 VCCIO_32_1, K8 VCCINT_7, K9 NC_7, K10 NC_6, K12 VCCAUX_3, K14 VCCIO_13_4, L7 VCCINT_9, L9 NC_9, L10 NC_8, L11 VCCINT_8, L17 VCCIO_12_1, M8 VCCINT_11, M10 VCCINT_10, M12 VCCAUX_4, N3 VCCIO_32_2, N7 VCCINT_13, N9 VCCINT_14, N11 VCCINT_12, N13 VCCIO_12_2, P6 VCCIO_32_3, P16 VCCIO_12_3, R9 VCCIO_0, T2 VCCIO_32_4, T12 VCCIO_12_4, U5 VCCIO_32_5, U15 VCCIO_12_5, V8 VCCIO_32_6, V18 VCCIO_12_6
part H pins: A2 GND_2, A12 GND_1, B5 GND_4, B15 GND_3, C8 GND_6, C18 GND_5, D1 GND_7, D11 GND_8, E4 GND_10, E14 GND_9, F7 GND_13, F9 GND_14, F11 GND_11, F17 GND_12, G8 GND_17, G10 GND_15, G12 GND_16, H3 GND_20, H7 GND_21, H11 GND_18, H13 GND_19, J6 GND_24, J8 GND_25, J12 GND_22, J16 GND_23, K7 GND_27, K11 GND_26, L2 GND_29, L8 GND_30, L12 GND_28, M5 GND_33, M7 GND_34, M9 GND_35, M11 GND_31, M15 GND_32, N8 GND_39, N10 GND_36, N12 GND_37, N18 GND_38, P1 GND_40, R4 GND_42, R14 GND_41, T7 GND_44, T17 GND_43, U10 GND_45, V3 GND_47, V13 GND_46

## REF3330AIRSE
designator U?  (value not drawn)
REF33xx 3.9-μA, SC70-3, SOT-23-3, and UQFN-8, 30-ppm/°C Drift Voltage Reference
footprint QFN1.5x1.5-8
pins: 1 NC, 2 NC, 3 NC, 4 GND, 5 IN, 6 NC, 7 NC, 8 OUT

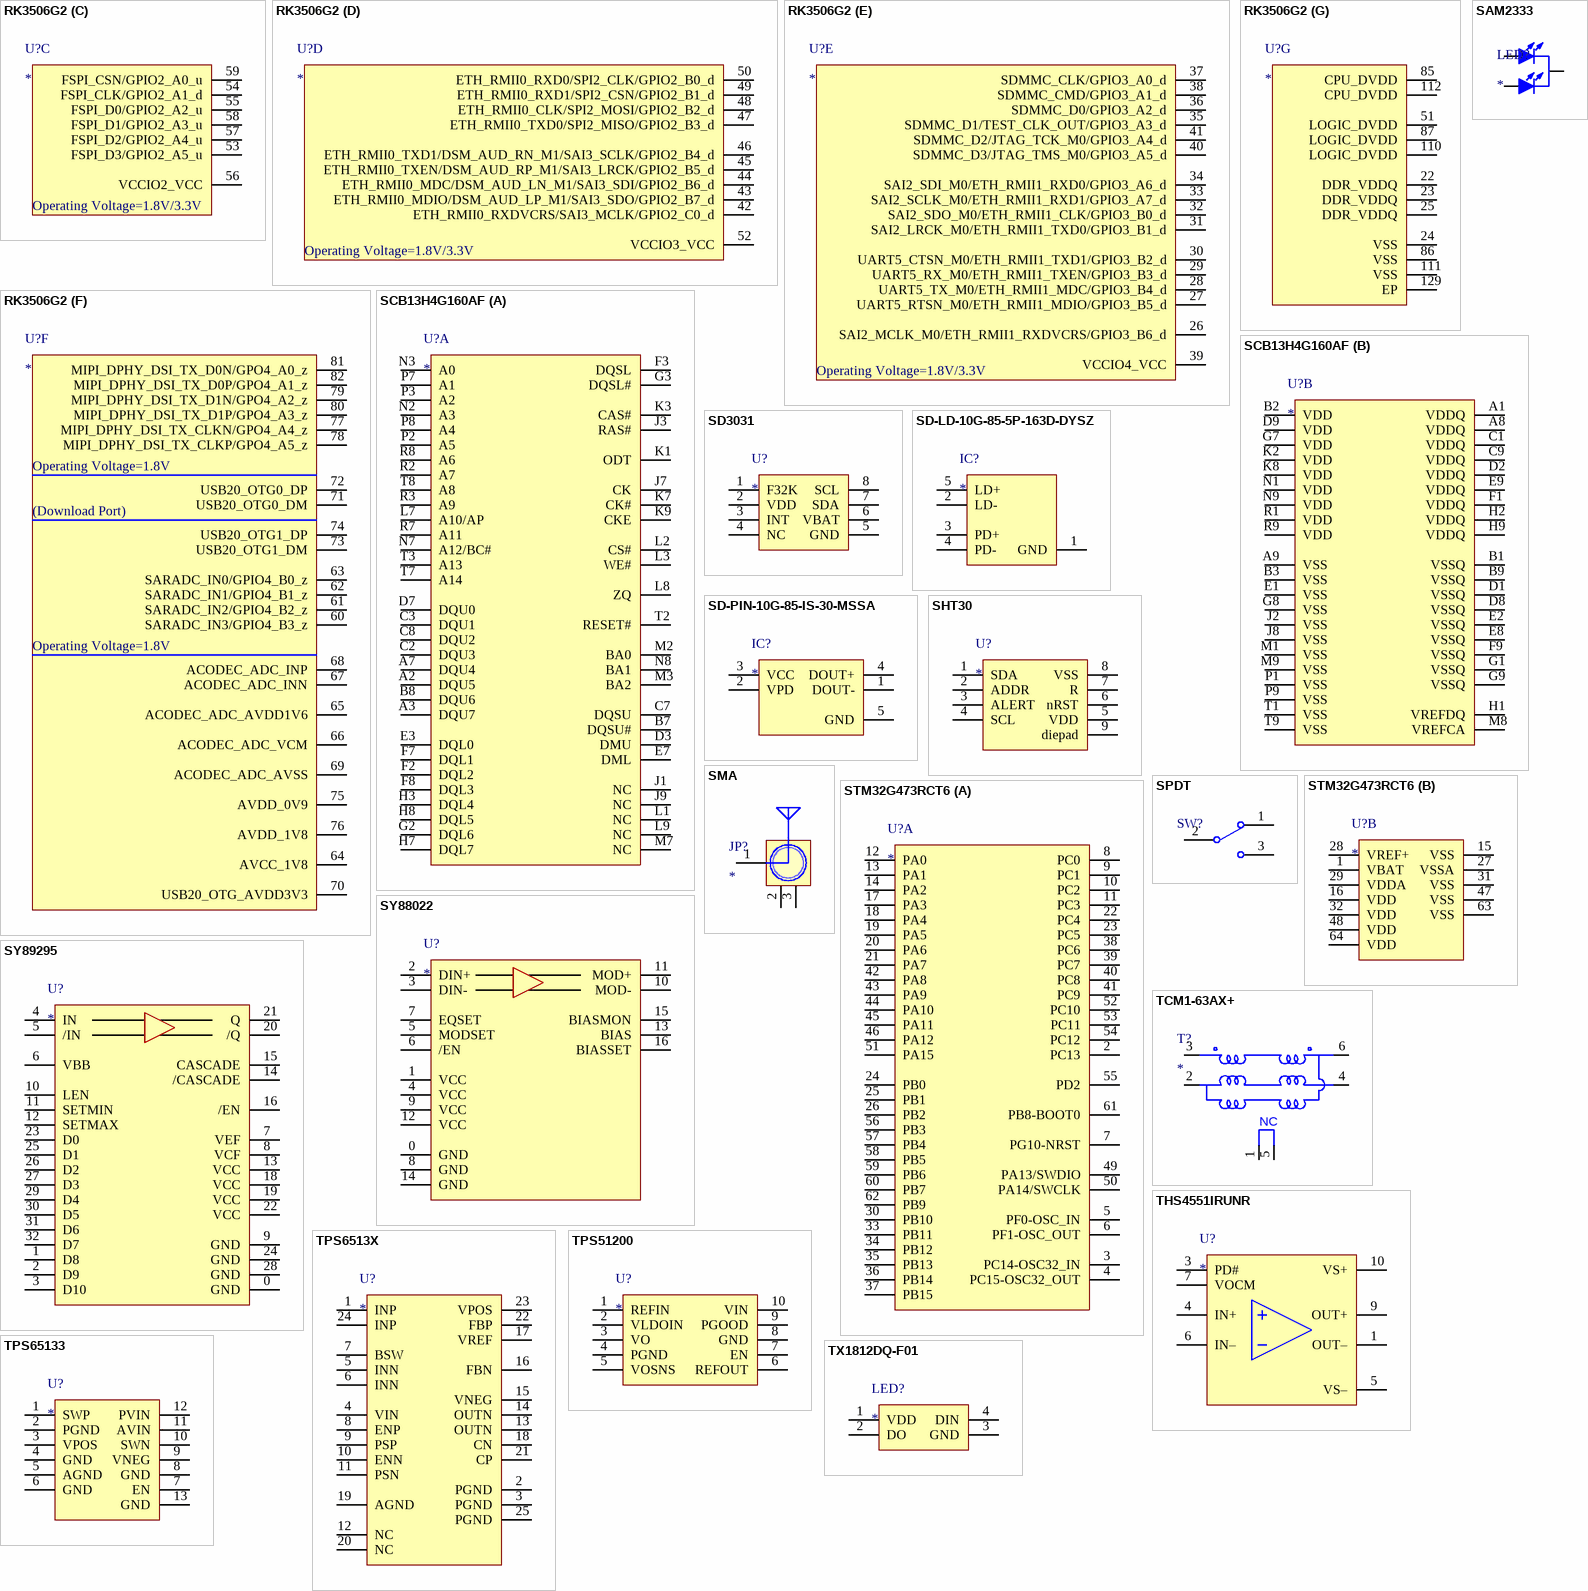
[diagram p13: symbols RK3506G2 to TX1812DQ-F01]

## RK3506G2
designator U?
footprint QFN12.3x12.3-128 (QFN, 128-Leads, Body 12.30x12.30mm, Pitch 0.35mm, Thermal Pad 7.00x7.00mm, IPC Medium Density)
part A pins: 1 SPI0_MOSI/RM_IO17/GPIO0_C1_d, 2 SPI0_CLK/RM_IO16/GPIO0_C0_d, 3 SAI1_SDO3/SPI0_CSN1/RM_IO15/GPIO0_B7_d, 4 SAI1_SDO2/SPI1_CSN0/RM_IO14/GPIO0_B6_d, 5 SAI1_SDO1/RM_IO13/GPIO0_B5_d, 6 SAI1_SDO0/RM_IO12/GPIO0_B4_d, 7 SAI1_SDI/RM_IO11/GPIO0_B3_d, 8 SAI1_LRCK/SPI1_MISO/RM_IO10/GPIO0_B2_d, 9 PMUIO_VCC3V3, 10 NPOR, 11 PMU_LOGIC_DVDD0V9, 12 SAI1_SCLK/SPI1_MOSI/RM_IO9/GPIO0_B1_d, 13 SAI1_MCLK/SPI1_CLK/RM_IO8/GPIO0_B0_d, 14 SAI0_SDI3/SPI1_CSN1/RM_IO7/GPIO0_A7_d, 15 SAI0_SDI2/RM_IO6/GPIO0_A6_d, 16 SAI0_SDI1/RM_IO5/GPIO0_A5_d, 17 SAI0_SDI0/RM_IO4/GPIO0_A4_d, 18 SAI0_SDO/RM_IO3/GPIO0_A3_d, 19 SAI0_MCLK/RM_IO2/GPIO0_A2_u, 20 SAI0_SCLK/RM_IO1/GPIO0_A1_d, 21 SAI0_LRCK/RM_IO0/GPIO0_A0_u, 119 OSC_CLK_OUT/REF_CLK0_OUT/GPIO0_D0_d, 120 SYS_PLL_AVDD1V8, 121 OSC_XIN, 122 OSC_XOUT, 123 UART0_RX/JTAG_TMS_M1/RM_IO23/GPIO0_C7_u, 124 UART0_TX/JTAG_TCK_M1/RM_IO22/GPIO0_C6_u, 125 CPU_AVS/RM_IO21/GPIO0_C5_z, 126 ETH_CLK0_25M_OUT/AUPLL_CLK_IN/RM_IO20/GPIO0_C4_d, 127 ETH_CLK1_25M_OUT/SPI0_CSN0/RM_IO19/GPIO0_C3_d, 128 REF_CLK1_OUT/SPI0_MISO/RM_IO18/GPIO0_C2_d
part B pins: 83 VO_LCDC_DEN/DSMC_CLKP/FLEXBUS1_D0/GPIO1_A0_d, 84 VO_LCDC_VSYNC/DSMC_CLKN/FLEXBUS1_D1/DSMC_INT0/DSMC_SLV_INT/GPIO1_A1_d, 88 VO_LCDC_HSYNC/DSMC_DQS0/FLEXBUS1_D2/GPIO1_A2_d, 89 VO_LCDC_CLK/DSMC_D0/FLEXBUS1_D3/GPIO1_A3_d, 90 VO_LCDC_D23/DSMC_D1/FLEXBUS1_D4/GPIO1_A4_d, 91 VO_LCDC_D22/DSMC_D2/FLEXBUS1_D5/GPIO1_A5_d, 92 VCCIO1_VCC, 93 VO_LCDC_D21/DSMC_D3/FLEXBUS1_D6/GPIO1_A6_d, 94 VO_LCDC_D20/DSMC_D4/FLEXBUS1_D7/GPIO1_A7_d, 95 VO_LCDC_D19/DSMC_D5/FLEXBUS1_D8/FLEXBUS0_CSN_M0/GPIO1_B0_d, 96 VO_LCDC_D18/DSMC_CSN1/FLEXBUS1_D9/FLEXBUS1_CSN_M0/UART5_CTSN_M1/RM_IO24/GPIO1_B1_d, 97 VO_LCDC_D17/DSMC_INT2/FLEXBUS1_D10/FLEXBUS0_D15/FLEXBUS0_CSN_M1/SAI2_SCLK_M1/RM_IO25/GPIO1_B2_d, 98 VO_LCDC_D16/DSMC_INT3/FLEXBUS1_D11/FLEXBUS0_D14/FLEXBUS1_CSN_M1/SAI2_LRCK_M1/RM_IO26/GPIO1_B3_d, 99 VO_LCDC_D15/DSMC_D6/FLEXBUS1_D12/FLEXBUS0_D13/FLEXBUS0_CSN_M2/GPIO1_B4_d, 100 VO_LCDC_D14/DSMC_D7/FLEXBUS1_D13/FLEXBUS0_D12/FLEXBUS1_CSN_M2/GPIO1_B5_d, 101 VO_LCDC_D13/DSMC_CSN0/FLEXBUS1_D14/FLEXBUS0_D11/FLEXBUS0_CSN_M3/GPIO1_B6_d, 102 VO_LCDC_D12/DSMC_RDYN/FLEXBUS1_D15/FLEXBUS0_D10/FLEXBUS1_CSN_M3/GPIO1_B7_d, 103 VCCIO1_VCC, 104 VO_LCDC_D11/DSMC_RESETN/FLEXBUS1_CLK/DSMC_INT1/FLEXBUS0_CSN_M4/DSMC_SLV_CLK/GPIO1_C0_d, 105 VO_LCDC_D10/DSMC_D8/FLEXBUS0_CLK/DSM_AUD_RN_M0/FLEXBUS1_CSN_M4/SAI2_MCLK_M1/DSMC_SLV_DQS0/GPIO1_C1_d, 106 VO_LCDC_D9/DSMC_D9/FLEXBUS0_D9/DSM_AUD_RP_M0/FLEXBUS0_CSN_M5/SAI2_SDI_M1/RM_IO27/DSMC_SLV_D0/GPIO1_C2_d, 107 VO_LCDC_D8/DSMC_D10/FLEXBUS0_D8/FLEXBUS1_CSN_M5/SAI2_SDO_M1/RM_IO28/DSMC_SLV_D1/GPIO1_C3_d, 108 VO_LCDC_D7/DSMC_D11/FLEXBUS0_D7/DSMC_SLV_D2/GPIO1_C4_d, 109 VO_LCDC_D6/DSMC_D12/FLEXBUS0_D6/DSMC_SLV_D3/GPIO1_C5_d, 113 VO_LCDC_D5/DSMC_D13/FLEXBUS0_D5/DSMC_SLV_D4/GPIO1_C6_d, 114 VO_LCDC_D4/DSMC_D14/FLEXBUS0_D4/DSMC_SLV_D5/GPIO1_C7_d, 115 VO_LCDC_D3/DSMC_D15/FLEXBUS0_D3/DSM_AUD_LN_M0/DSMC_SLV_D6/GPIO1_D0_d, 116 VO_LCDC_D2/DSMC_DQS1/FLEXBUS0_D2/DSM_AUD_LP_M0/UART5_RTSN_M1/RM_IO29/DSMC_SLV_D7/GPIO1_D1_d, 117 VO_LCDC_D1/DSMC_CSN2/FLEXBUS0_D1/UART5_TX_M1/RM_IO30/DSMC_SLV_CSN0/GPIO1_D2_d, 118 VO_LCDC_D0/DSMC_CSN3/FLEXBUS0_D0/UART5_RX_M1/RM_IO31/DSMC_SLV_RDYN/GPIO1_D3_d
part C pins: 53 FSPI_D3/GPIO2_A5_u, 54 FSPI_CLK/GPIO2_A1_d, 55 FSPI_D0/GPIO2_A2_u, 56 VCCIO2_VCC, 57 FSPI_D2/GPIO2_A4_u, 58 FSPI_D1/GPIO2_A3_u, 59 FSPI_CSN/GPIO2_A0_u
part D pins: 42 ETH_RMII0_RXDVCRS/SAI3_MCLK/GPIO2_C0_d, 43 ETH_RMII0_MDIO/DSM_AUD_LP_M1/SAI3_SDO/GPIO2_B7_d, 44 ETH_RMII0_MDC/DSM_AUD_LN_M1/SAI3_SDI/GPIO2_B6_d, 45 ETH_RMII0_TXEN/DSM_AUD_RP_M1/SAI3_LRCK/GPIO2_B5_d, 46 ETH_RMII0_TXD1/DSM_AUD_RN_M1/SAI3_SCLK/GPIO2_B4_d, 47 ETH_RMII0_TXD0/SPI2_MISO/GPIO2_B3_d, 48 ETH_RMII0_CLK/SPI2_MOSI/GPIO2_B2_d, 49 ETH_RMII0_RXD1/SPI2_CSN/GPIO2_B1_d, 50 ETH_RMII0_RXD0/SPI2_CLK/GPIO2_B0_d, 52 VCCIO3_VCC
part E pins: 26 SAI2_MCLK_M0/ETH_RMII1_RXDVCRS/GPIO3_B6_d, 27 UART5_RTSN_M0/ETH_RMII1_MDIO/GPIO3_B5_d, 28 UART5_TX_M0/ETH_RMII1_MDC/GPIO3_B4_d, 29 UART5_RX_M0/ETH_RMII1_TXEN/GPIO3_B3_d, 30 UART5_CTSN_M0/ETH_RMII1_TXD1/GPIO3_B2_d, 31 SAI2_LRCK_M0/ETH_RMII1_TXD0/GPIO3_B1_d, 32 SAI2_SDO_M0/ETH_RMII1_CLK/GPIO3_B0_d, 33 SAI2_SCLK_M0/ETH_RMII1_RXD1/GPIO3_A7_d, 34 SAI2_SDI_M0/ETH_RMII1_RXD0/GPIO3_A6_d, 35 SDMMC_D1/TEST_CLK_OUT/GPIO3_A3_d, 36 SDMMC_D0/GPIO3_A2_d, 37 SDMMC_CLK/GPIO3_A0_d, 38 SDMMC_CMD/GPIO3_A1_d, 39 VCCIO4_VCC, 40 SDMMC_D3/JTAG_TMS_M0/GPIO3_A5_d, 41 SDMMC_D2/JTAG_TCK_M0/GPIO3_A4_d
part F pins: 60 SARADC_IN3/GPIO4_B3_z, 61 SARADC_IN2/GPIO4_B2_z, 62 SARADC_IN1/GPIO4_B1_z, 63 SARADC_IN0/GPIO4_B0_z, 64 AVCC_1V8, 65 ACODEC_ADC_AVDD1V6, 66 ACODEC_ADC_VCM, 67 ACODEC_ADC_INN, 68 ACODEC_ADC_INP, 69 ACODEC_ADC_AVSS, 70 USB20_OTG_AVDD3V3, 71 USB20_OTG0_DM, 72 USB20_OTG0_DP, 73 USB20_OTG1_DM, 74 USB20_OTG1_DP, 75 AVDD_0V9, 76 AVDD_1V8, 77 MIPI_DPHY_DSI_TX_CLKN/GPO4_A4_z, 78 MIPI_DPHY_DSI_TX_CLKP/GPO4_A5_z, 79 MIPI_DPHY_DSI_TX_D1N/GPO4_A2_z, 80 MIPI_DPHY_DSI_TX_D1P/GPO4_A3_z, 81 MIPI_DPHY_DSI_TX_D0N/GPO4_A0_z, 82 MIPI_DPHY_DSI_TX_D0P/GPO4_A1_z
part G pins: 22 DDR_VDDQ, 23 DDR_VDDQ, 24 VSS, 25 DDR_VDDQ, 51 LOGIC_DVDD, 85 CPU_DVDD, 86 VSS, 87 LOGIC_DVDD, 110 LOGIC_DVDD, 111 VSS, 112 CPU_DVDD, 129 EP
part A text: Operating Voltage=1.8V Only; Operating Voltage=3.3V Only
part B text: Operating Voltage=1.8V/3.3V
part C text: Operating Voltage=1.8V/3.3V
part D text: Operating Voltage=1.8V/3.3V
part E text: Operating Voltage=1.8V/3.3V
part F text: Operating Voltage=1.8V; (Download Port)

## SAM2333
designator LED?
footprint SOT23-3M (3x1.3x1mm(长宽高))
footprint SOT23-3N (3x1.3x1mm(长宽高))
footprint SOT23-3L (3x1.3x1mm(长宽高))
pins: 1 A, 2 A, 3 K

## SCB13H4G160AF
designator U?
4Gbit DDR3L SDRAM
footprint FBGA-96
part A pins: A2 DQU5, A3 DQU7, A7 DQU4, B7 DQSU#, B8 DQU6, C2 DQU3, C3 DQU1, C7 DQSU, C8 DQU2, D3 DMU, D7 DQU0, E3 DQL0, E7 DML, F2 DQL2, F3 DQSL, F7 DQL1, F8 DQL3, G2 DQL6, G3 DQSL#, H3 DQL4, H7 DQL7, H8 DQL5, J1 NC, J3 RAS#, J7 CK, J9 NC, K1 ODT, K3 CAS#, K7 CK#, K9 CKE, L1 NC, L2 CS#, L3 WE#, L7 A10/AP, L8 ZQ, L9 NC, M2 BA0, M3 BA2, M7 NC, N2 A3, N3 A0, N7 A12/BC#, N8 BA1, P2 A5, P3 A2, P7 A1, P8 A4, R2 A7, R3 A9, R7 A11, R8 A6, T2 RESET#, T3 A13, T7 A14, T8 A8
part B pins: A1 VDDQ, A8 VDDQ, A9 VSS, B1 VSSQ, B2 VDD, B3 VSS, B9 VSSQ, C1 VDDQ, C9 VDDQ, D1 VSSQ, D2 VDDQ, D8 VSSQ, D9 VDD, E1 VSS, E2 VSSQ, E8 VSSQ, E9 VDDQ, F1 VDDQ, F9 VSSQ, G1 VSSQ, G7 VDD, G8 VSS, G9 VSSQ, H1 VREFDQ, H2 VDDQ, H9 VDDQ, J2 VSS, J8 VSS, K2 VDD, K8 VDD, M1 VSS, M8 VREFCA, M9 VSS, N1 VDD, N9 VDD, P1 VSS, P9 VSS, R1 VDD, R9 VDD, T1 VSS, T9 VSS

## SD3031
designator U?
内置晶振、全温度补偿和超小封装的实时时钟芯片
footprint SOP8W_N (5.3*8.3*1.8mm（长宽高）)
pins: 1 F32K, 2 VDD, 3 INT, 4 NC, 5 GND, 6 VBAT, 7 SDA, 8 SCL

## SD-LD-10G-85-5P-163D-DYSZ
designator IC?
footprint TO-52-5 (Footprint not found)
pins: 1 GND, 2 LD-, 3 PD+, 4 PD-, 5 LD+

## SD-PIN-10G-85-IS-30-MSSA
designator IC?
footprint TO-46-5 (Footprint not found)
pins: 1 DOUT-, 2 VPD, 3 VCC, 4 DOUT+, 5 GND

## SHT30
designator U?
温湿度计
footprint SHT3x
pins: 1 SDA, 2 ADDR, 3 ALERT, 4 SCL, 5 VDD, 6 nRST, 7 R, 8 VSS, 9 diepad

## SMA
designator JP?
footprint SMA-KHD10
footprint SMA-KFD216-4 (Footprint not found)
footprint SMA-KFD216 (Footprint not found)
footprint SMA-KHD23
pins: 1 ANT, 2 GND, 3 GND

## SPDT
designator SW?  (value not drawn)
单刀双掷开关
footprint UT-4-T2HR-2
pins: 1, 2, 3

## STM32G473RCT6
designator U?
footprint LQFP64 10x10_L (64脚，体宽10x10mm，脚距0.5mm)
footprint LQFP64 10x10_M (64脚，体宽10x10mm，脚距0.5mm)
footprint LQFP64 10x10_N (64脚，体宽10x10mm，脚距0.5mm)
part A pins: 2 PC13, 3 PC14-OSC32_IN, 4 PC15-OSC32_OUT, 5 PF0-OSC_IN, 6 PF1-OSC_OUT, 7 PG10-NRST, 8 PC0, 9 PC1, 10 PC2, 11 PC3, 12 PA0, 13 PA1, 14 PA2, 17 PA3, 18 PA4, 19 PA5, 20 PA6, 21 PA7, 22 PC4, 23 PC5, 24 PB0, 25 PB1, 26 PB2, 30 PB10, 33 PB11, 34 PB12, 35 PB13, 36 PB14, 37 PB15, 38 PC6, 39 PC7, 40 PC8, 41 PC9, 42 PA8, 43 PA9, 44 PA10, 45 PA11, 46 PA12, 49 PA13/SWDIO, 50 PA14/SWCLK, 51 PA15, 52 PC10, 53 PC11, 54 PC12, 55 PD2, 56 PB3, 57 PB4, 58 PB5, 59 PB6, 60 PB7, 61 PB8-BOOT0, 62 PB9
part B pins: 1 VBAT, 15 VSS, 16 VDD, 27 VSSA, 28 VREF+, 29 VDDA, 31 VSS, 32 VDD, 47 VSS, 48 VDD, 63 VSS, 64 VDD

## SY88022
designator U?
11.3Gbps Laser Diode Driver
footprint QFN3x3-16 (QFN, 16-Leads, Body 3.00x3.00mm, Pitch 0.50mm, Thermal Pad 1.55x1.55mm, IPC Medium Density)
pins: 0 GND, 1 VCC, 2 DIN+, 3 DIN-, 4 VCC, 5 MODSET, 6 /EN, 7 EQSET, 8 GND, 9 VCC, 10 MOD-, 11 MOD+, 12 VCC, 13 BIAS, 14 GND, 15 BIASMON, 16 BIASSET

## SY89295
designator U?
2.5V/3.3V 1.5GHz Precision LVPECL Programmable Delay
footprint MLF-32 (QFN, 32-Leads, Body 5.00x5.00mm, Pitch 0.50mm, Thermal Pad 3.10x3.10mm, IPC Medium Density)
pins: 0 GND, 1 D8, 2 D9, 3 D10, 4 IN, 5 /IN, 6 VBB, 7 VEF, 8 VCF, 9 GND, 10 LEN, 11 SETMIN, 12 SETMAX, 13 VCC, 14 /CASCADE, 15 CASCADE, 16 /EN, 18 VCC, 19 VCC, 20 /Q, 21 Q, 22 VCC, 23 D0, 24 GND, 25 D1, 26 D2, 27 D3, 28 GND, 29 D4, 30 D5, 31 D6, 32 D7

## TCM1-63AX+
designator T?
footprint TCM1-63AX+
pins: 1 NC, 2, 3, 4, 5 NC, 6

## THS4551IRUNR
designator U?
footprint QFN2x2-10
pins: 1 OUT–, 3 PD#, 4 IN+, 5 VS–, 6 IN–, 7 VOCM, 9 OUT+, 10 VS+

## TPS6513X
designator U?
双路正负输出直流/直流转换器
footprint QFN4x4-24 (QFN, 24-Leads, Body 4.00x4.00mm, Pitch 0.50mm, Thermal Pad 2.45x2.43mm, IPC Medium Density)
pins: 1 INP, 2 PGND, 3 PGND, 4 VIN, 5 INN, 6 INN, 7 BSW, 8 ENP, 9 PSP, 10 ENN, 11 PSN, 12 NC, 13 OUTN, 14 OUTN, 15 VNEG, 16 FBN, 17 VREF, 18 CN, 19 AGND, 20 NC, 21 CP, 22 FBP, 23 VPOS, 24 INP, 25 PGND

## TPS51200
designator U?
灌电流和拉电流 DDR 终端稳压器
footprint VSON3x3-10
pins: 1 REFIN, 2 VLDOIN, 3 VO, 4 PGND, 5 VOSNS, 6 REFOUT, 7 EN, 8 GND, 9 PGOOD, 10 VIN

## TPS65133
designator U?
±5V，250mA 双输出电源
footprint DFN3x3-12 (Footprint not found)
pins: 1 SWP, 2 PGND, 3 VPOS, 4 GND, 5 AGND, 6 GND, 7 EN, 8 GND, 9 VNEG, 10 SWN, 11 AVIN, 12 PVIN, 13 GND

## TX1812DQ-F01
designator LED?
footprint LED6028_R
pins: 1 VDD, 2 DO, 3 GND, 4 DIN

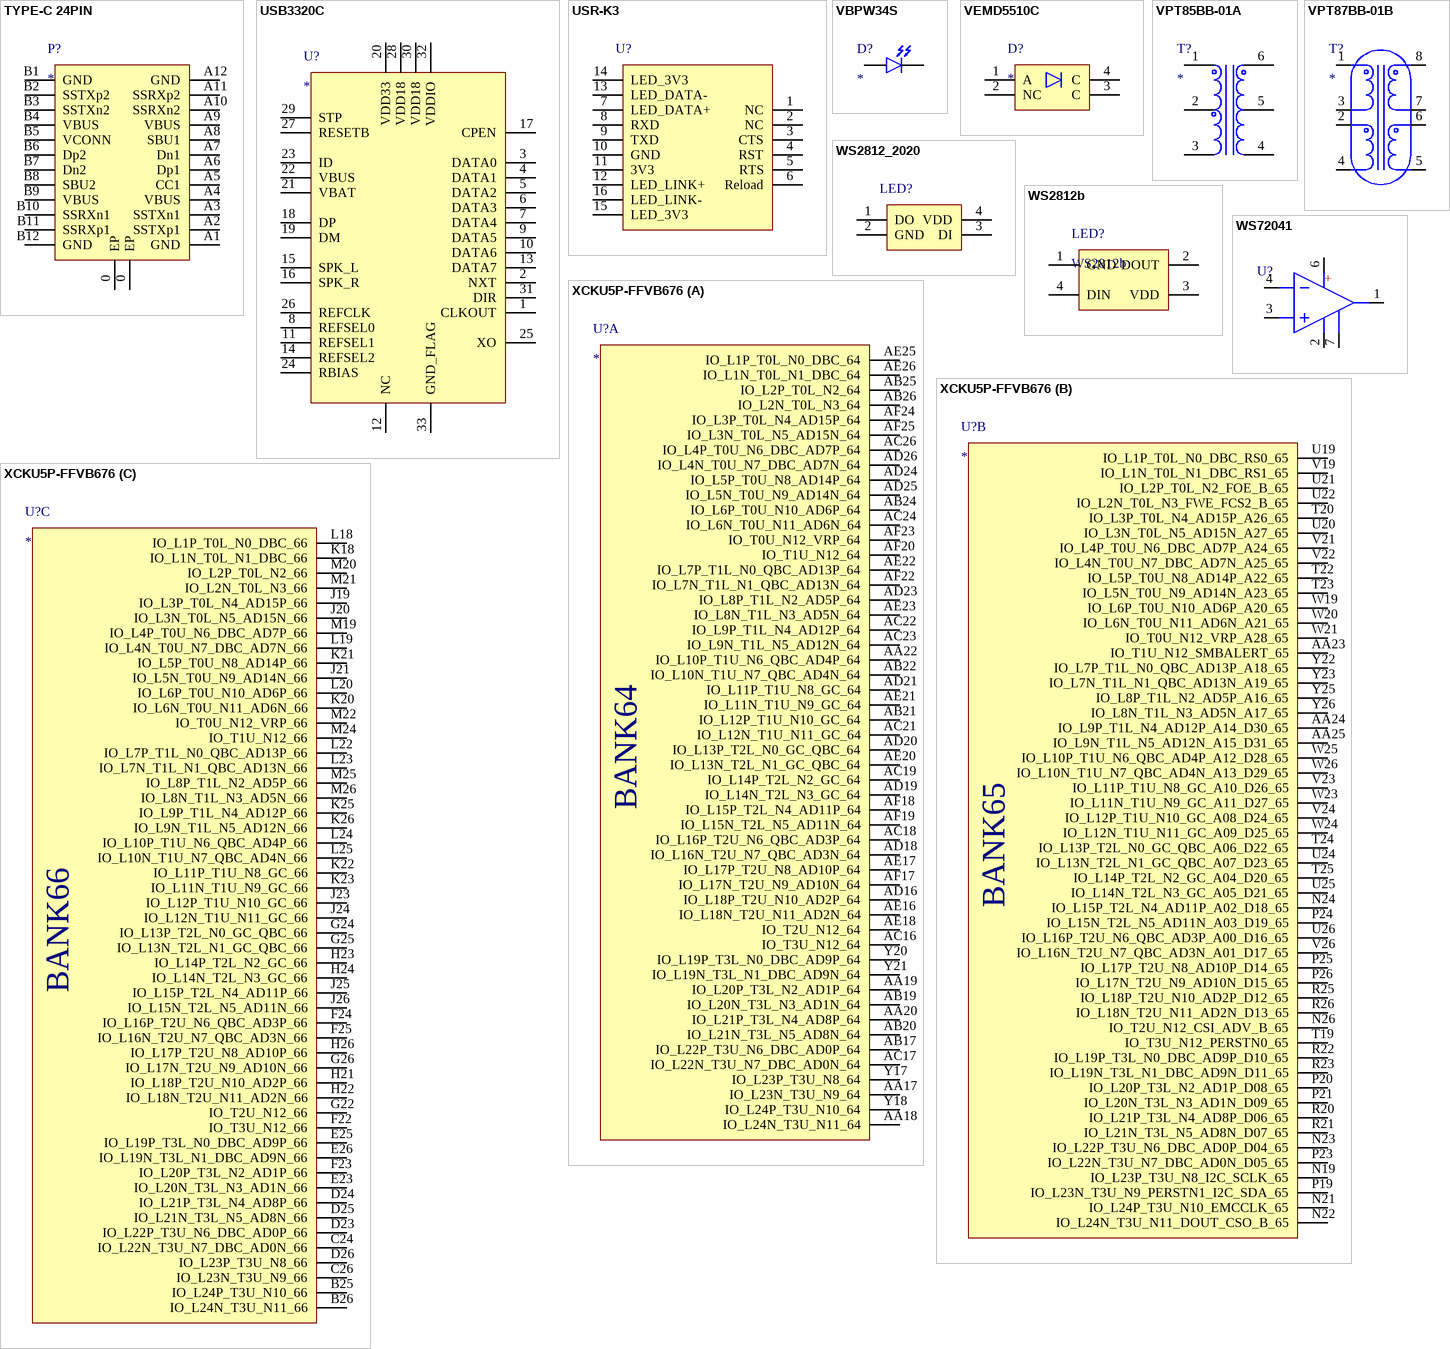
[diagram p14: symbols TYPE-C 24PIN to XCKU5P-FFVB676]

## TYPE-C 24PIN
designator P?
footprint TYPE-C 24P QCHT (C456013)
pins: 0 EP, 0 EP, A1 GND, A2 SSTXp1, A3 SSTXn1, A4 VBUS, A5 CC1, A6 Dp1, A7 Dn1, A8 SBU1, A9 VBUS, A10 SSRXn2, A11 SSRXp2, A12 GND, B1 GND, B2 SSTXp2, B3 SSTXn2, B4 VBUS, B5 VCONN, B6 Dp2, B7 Dn2, B8 SBU2, B9 VBUS, B10 SSRXn1, B11 SSRXp1, B12 GND

## USB3320C
designator U?
footprint QFN32 5x5_L (32脚，长x宽x高：5x5x0.95mm，脚距：0.5mm)
footprint QFN32 5x5_M (32脚，长x宽x高：5x5x0.95mm，脚距：0.5mm)
footprint QFN32 5x5_N (32脚，长x宽x高：5x5x0.95mm，脚距：0.5mm)
pins: 1 CLKOUT, 2 NXT, 3 DATA0, 4 DATA1, 5 DATA2, 6 DATA3, 7 DATA4, 8 REFSEL0, 9 DATA5, 10 DATA6, 11 REFSEL1, 12 NC, 13 DATA7, 14 REFSEL2, 15 SPK_L, 16 SPK_R, 17 CPEN, 18 DP, 19 DM, 20 VDD33, 21 VBAT, 22 VBUS, 23 ID, 24 RBIAS, 25 XO, 26 REFCLK, 27 RESETB, 28 VDD18, 29 STP, 30 VDD18, 31 DIR, 32 VDDIO, 33 GND_FLAG

## USR-K3
designator U?  (value not drawn)
footprint USR-K3
pins: 1 NC, 2 NC, 3 CTS, 4 RST, 5 RTS, 6 Reload, 7 LED_DATA+, 8 RXD, 9 TXD, 10 GND, 11 3V3, 12 LED_LINK+, 13 LED_DATA-, 14 LED_3V3, 15 LED_3V3, 16 LED_LINK-

## VBPW34S
designator D?
Silicon PIN Photodiode
footprint VBPW34S (Footprint not found)
pins: 1 A, 2 C

## VEMD5510C
designator D?
Silicon PIN Photodiode
footprint VEMD5510C (Footprint not found)
pins: 1 A, 2 NC, 3 C, 4 C

## VPT85BB-01A
designator T?
C2875071
footprint VPT85BB-01A (C2875071)
pins: 1, 2, 3, 4, 5, 6

## VPT87BB-01B
designator T?
变压器小体积/SMD/3000VDC隔离
footprint VPT87BB-01B
pins: 1, 2, 3, 4, 5, 6, 7, 8

## WS2812_2020
designator LED?  (value not drawn)
footprint LED2020 (Footprint not found)
pins: 1 DO, 2 GND, 3 DI, 4 VDD

## WS2812b
designator LED?
单总线控制RGB LED
footprint LED 5050 (5050LED WS2812)
footprint 5050WS2812B
pins: 1 GND, 2 DOUT, 3 VDD, 4 DIN

## WS72041
designator U?  (value not drawn)
600nA Nano-Power Rail-to-Rail Input / Output Operational Amplifiers
footprint DFN2x2-6
pins: 1 OUT, 2 V-, 3 +IN, 4 -IN, 6 V+, 7 EP
text: +

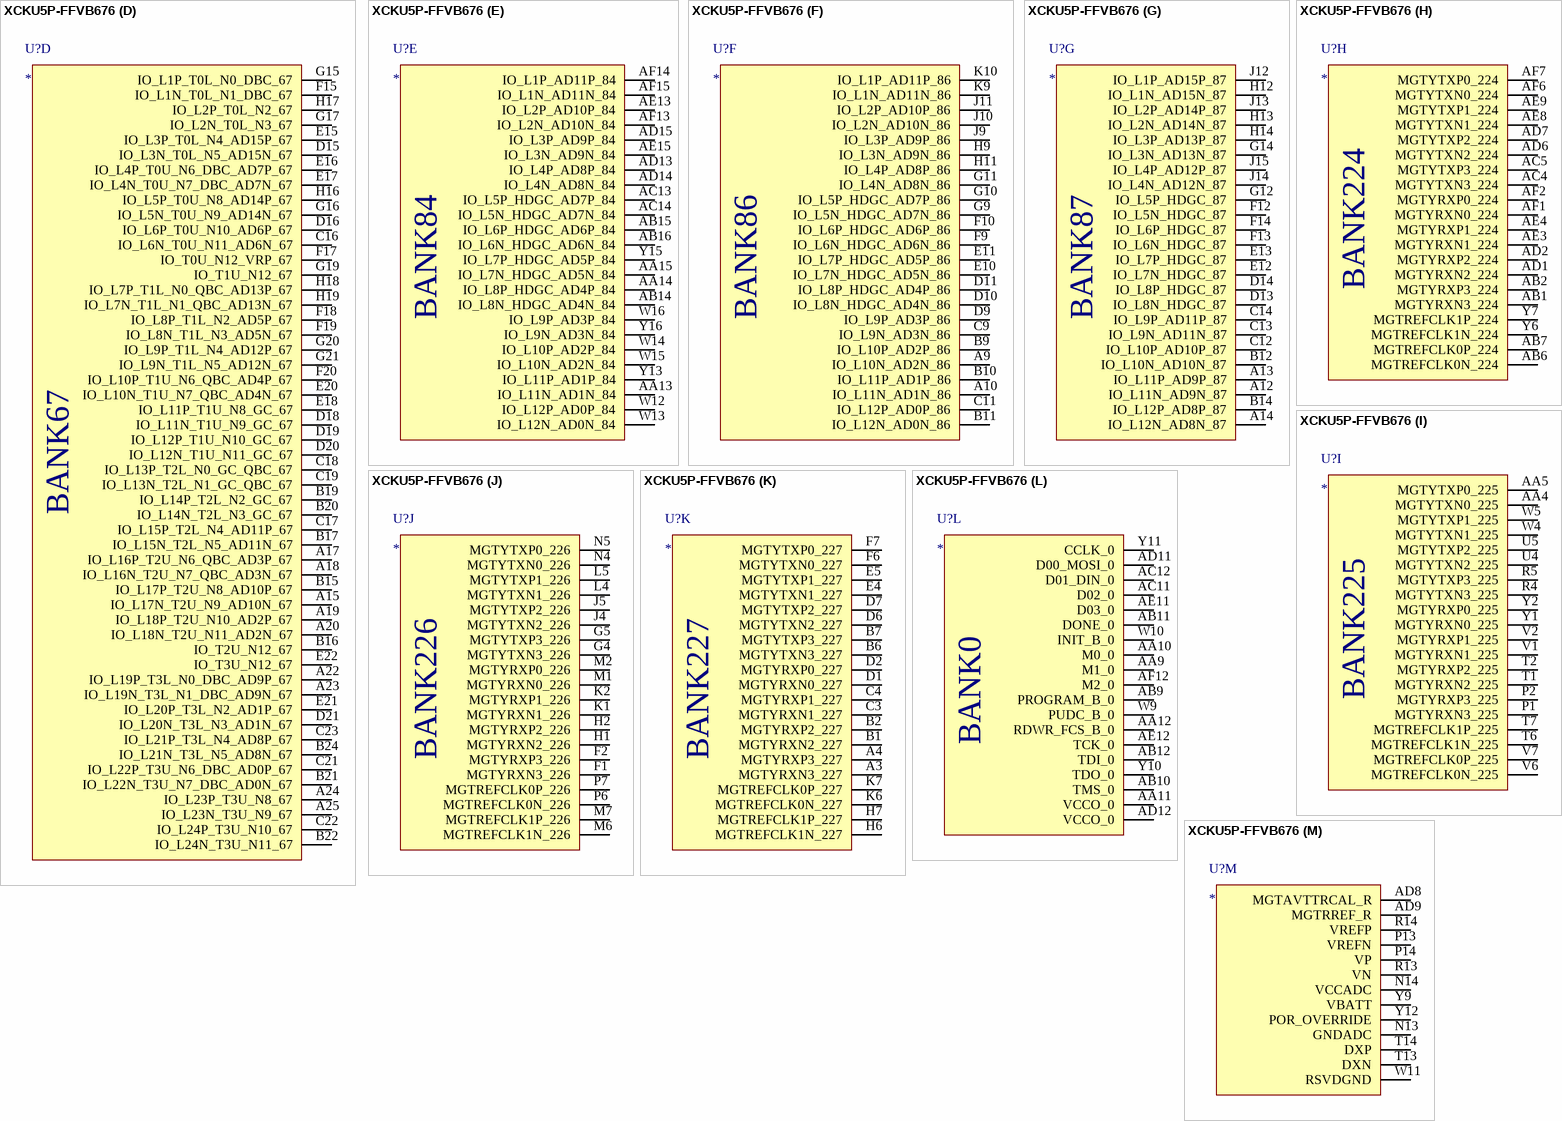
[diagram p15: symbol XCKU5P-FFVB676]

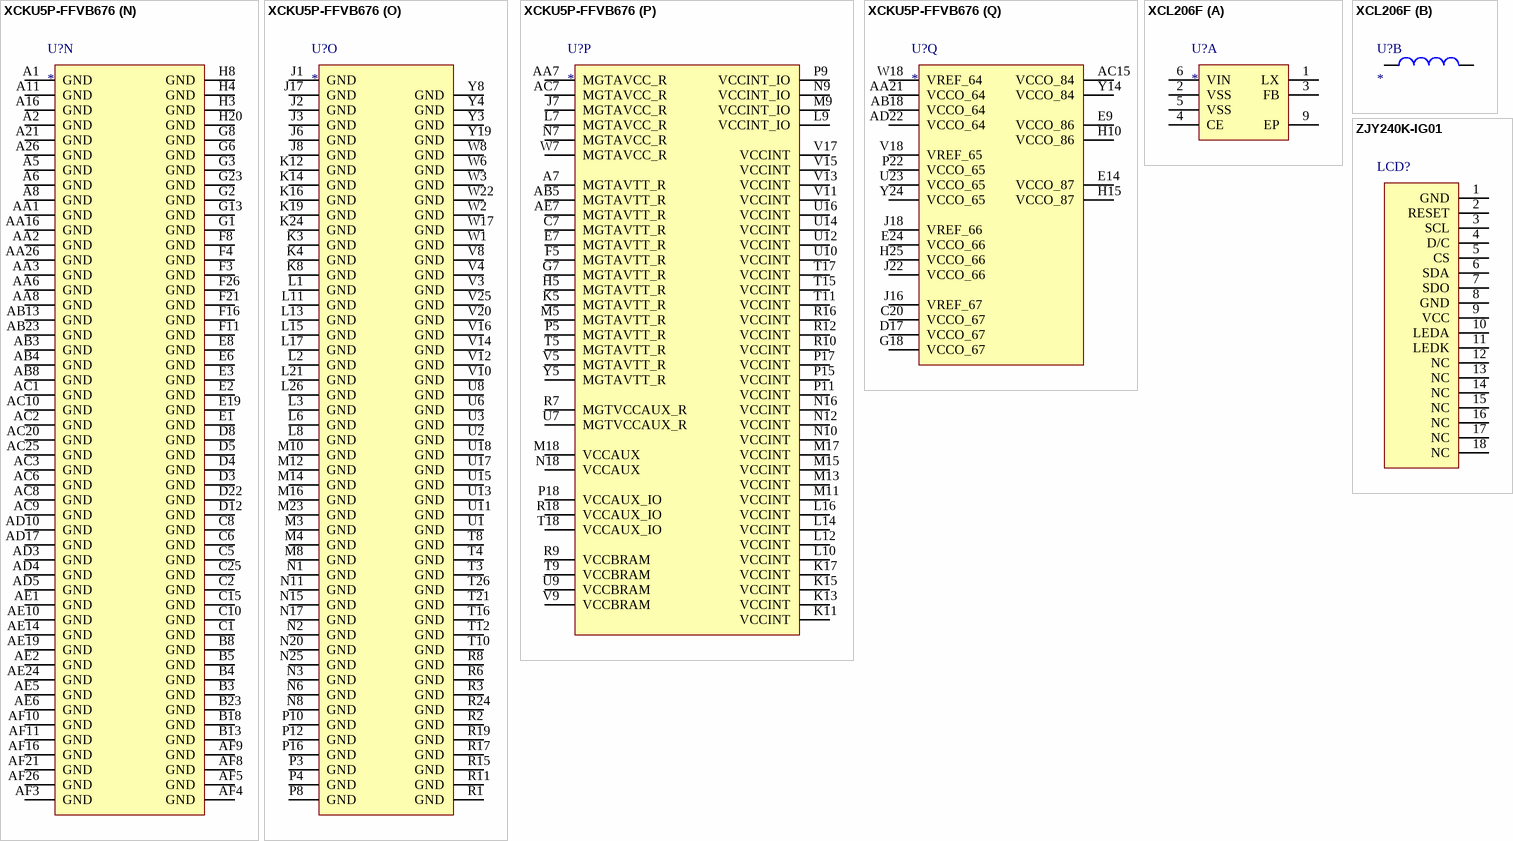
[diagram p16: symbols XCKU5P-FFVB676 to ZJY240K-IG01]

## XCKU5P-FFVB676
designator U?
footprint FFVB676 (Footprint not found)
part A pins: AA17 IO_L23N_T3U_N9_64, AA18 IO_L24N_T3U_N11_64, AA19 IO_L20P_T3L_N2_AD1P_64, AA20 IO_L21P_T3L_N4_AD8P_64, AA22 IO_L10P_T1U_N6_QBC_AD4P_64, AB17 IO_L22P_T3U_N6_DBC_AD0P_64, AB19 IO_L20N_T3L_N3_AD1N_64, AB20 IO_L21N_T3L_N5_AD8N_64, AB21 IO_L12P_T1U_N10_GC_64, AB22 IO_L10N_T1U_N7_QBC_AD4N_64, AB24 IO_L6P_T0U_N10_AD6P_64, AB25 IO_L2P_T0L_N2_64, AB26 IO_L2N_T0L_N3_64, AC16 IO_T3U_N12_64, AC17 IO_L22N_T3U_N7_DBC_AD0N_64, AC18 IO_L16P_T2U_N6_QBC_AD3P_64, AC19 IO_L14P_T2L_N2_GC_64, AC21 IO_L12N_T1U_N11_GC_64, AC22 IO_L9P_T1L_N4_AD12P_64, AC23 IO_L9N_T1L_N5_AD12N_64, AC24 IO_L6N_T0U_N11_AD6N_64, AC26 IO_L4P_T0U_N6_DBC_AD7P_64, AD16 IO_L18P_T2U_N10_AD2P_64, AD18 IO_L16N_T2U_N7_QBC_AD3N_64, AD19 IO_L14N_T2L_N3_GC_64, AD20 IO_L13P_T2L_N0_GC_QBC_64, AD21 IO_L11P_T1U_N8_GC_64, AD23 IO_L8P_T1L_N2_AD5P_64, AD24 IO_L5P_T0U_N8_AD14P_64, AD25 IO_L5N_T0U_N9_AD14N_64, AD26 IO_L4N_T0U_N7_DBC_AD7N_64, AE16 IO_L18N_T2U_N11_AD2N_64, AE17 IO_L17P_T2U_N8_AD10P_64, AE18 IO_T2U_N12_64, AE20 IO_L13N_T2L_N1_GC_QBC_64, AE21 IO_L11N_T1U_N9_GC_64, AE22 IO_L7P_T1L_N0_QBC_AD13P_64, AE23 IO_L8N_T1L_N3_AD5N_64, AE25 IO_L1P_T0L_N0_DBC_64, AE26 IO_L1N_T0L_N1_DBC_64, AF17 IO_L17N_T2U_N9_AD10N_64, AF18 IO_L15P_T2L_N4_AD11P_64, AF19 IO_L15N_T2L_N5_AD11N_64, AF20 IO_T1U_N12_64, AF22 IO_L7N_T1L_N1_QBC_AD13N_64, AF23 IO_T0U_N12_VRP_64, AF24 IO_L3P_T0L_N4_AD15P_64, AF25 IO_L3N_T0L_N5_AD15N_64, Y17 IO_L23P_T3U_N8_64, Y18 IO_L24P_T3U_N10_64, Y20 IO_L19P_T3L_N0_DBC_AD9P_64, Y21 IO_L19N_T3L_N1_DBC_AD9N_64
part B pins: AA23 IO_T1U_N12_SMBALERT_65, AA24 IO_L9P_T1L_N4_AD12P_A14_D30_65, AA25 IO_L9N_T1L_N5_AD12N_A15_D31_65, N19 IO_L23P_T3U_N8_I2C_SCLK_65, N21 IO_L24P_T3U_N10_EMCCLK_65, N22 IO_L24N_T3U_N11_DOUT_CSO_B_65, N23 IO_L22P_T3U_N6_DBC_AD0P_D04_65, N24 IO_L15P_T2L_N4_AD11P_A02_D18_65, N26 IO_T2U_N12_CSI_ADV_B_65, P19 IO_L23N_T3U_N9_PERSTN1_I2C_SDA_65, P20 IO_L20P_T3L_N2_AD1P_D08_65, P21 IO_L20N_T3L_N3_AD1N_D09_65, P23 IO_L22N_T3U_N7_DBC_AD0N_D05_65, P24 IO_L15N_T2L_N5_AD11N_A03_D19_65, P25 IO_L17P_T2U_N8_AD10P_D14_65, P26 IO_L17N_T2U_N9_AD10N_D15_65, R20 IO_L21P_T3L_N4_AD8P_D06_65, R21 IO_L21N_T3L_N5_AD8N_D07_65, R22 IO_L19P_T3L_N0_DBC_AD9P_D10_65, R23 IO_L19N_T3L_N1_DBC_AD9N_D11_65, R25 IO_L18P_T2U_N10_AD2P_D12_65, R26 IO_L18N_T2U_N11_AD2N_D13_65, T19 IO_T3U_N12_PERSTN0_65, T20 IO_L3P_T0L_N4_AD15P_A26_65, T22 IO_L5P_T0U_N8_AD14P_A22_65, T23 IO_L5N_T0U_N9_AD14N_A23_65, T24 IO_L13P_T2L_N0_GC_QBC_A06_D22_65, T25 IO_L14P_T2L_N2_GC_A04_D20_65, U19 IO_L1P_T0L_N0_DBC_RS0_65, U20 IO_L3N_T0L_N5_AD15N_A27_65, U21 IO_L2P_T0L_N2_FOE_B_65, U22 IO_L2N_T0L_N3_FWE_FCS2_B_65, U24 IO_L13N_T2L_N1_GC_QBC_A07_D23_65, U25 IO_L14N_T2L_N3_GC_A05_D21_65, U26 IO_L16P_T2U_N6_QBC_AD3P_A00_D16_65, V19 IO_L1N_T0L_N1_DBC_RS1_65, V21 IO_L4P_T0U_N6_DBC_AD7P_A24_65, V22 IO_L4N_T0U_N7_DBC_AD7N_A25_65, V23 IO_L11P_T1U_N8_GC_A10_D26_65, V24 IO_L12P_T1U_N10_GC_A08_D24_65, V26 IO_L16N_T2U_N7_QBC_AD3N_A01_D17_65, W19 IO_L6P_T0U_N10_AD6P_A20_65, W20 IO_L6N_T0U_N11_AD6N_A21_65, W21 IO_T0U_N12_VRP_A28_65, W23 IO_L11N_T1U_N9_GC_A11_D27_65, W24 IO_L12N_T1U_N11_GC_A09_D25_65, W25 IO_L10P_T1U_N6_QBC_AD4P_A12_D28_65, W26 IO_L10N_T1U_N7_QBC_AD4N_A13_D29_65, Y22 IO_L7P_T1L_N0_QBC_AD13P_A18_65, Y23 IO_L7N_T1L_N1_QBC_AD13N_A19_65, Y25 IO_L8P_T1L_N2_AD5P_A16_65, Y26 IO_L8N_T1L_N3_AD5N_A17_65
part C pins: B25 IO_L24P_T3U_N10_66, B26 IO_L24N_T3U_N11_66, C24 IO_L22N_T3U_N7_DBC_AD0N_66, C26 IO_L23N_T3U_N9_66, D23 IO_L22P_T3U_N6_DBC_AD0P_66, D24 IO_L21P_T3L_N4_AD8P_66, D25 IO_L21N_T3L_N5_AD8N_66, D26 IO_L23P_T3U_N8_66, E23 IO_L20N_T3L_N3_AD1N_66, E25 IO_L19P_T3L_N0_DBC_AD9P_66, E26 IO_L19N_T3L_N1_DBC_AD9N_66, F22 IO_T3U_N12_66, F23 IO_L20P_T3L_N2_AD1P_66, F24 IO_L16P_T2U_N6_QBC_AD3P_66, F25 IO_L16N_T2U_N7_QBC_AD3N_66, G22 IO_T2U_N12_66, G24 IO_L13P_T2L_N0_GC_QBC_66, G25 IO_L13N_T2L_N1_GC_QBC_66, G26 IO_L17N_T2U_N9_AD10N_66, H21 IO_L18P_T2U_N10_AD2P_66, H22 IO_L18N_T2U_N11_AD2N_66, H23 IO_L14P_T2L_N2_GC_66, H24 IO_L14N_T2L_N3_GC_66, H26 IO_L17P_T2U_N8_AD10P_66, J19 IO_L3P_T0L_N4_AD15P_66, J20 IO_L3N_T0L_N5_AD15N_66, J21 IO_L5N_T0U_N9_AD14N_66, J23 IO_L12P_T1U_N10_GC_66, J24 IO_L12N_T1U_N11_GC_66, J25 IO_L15P_T2L_N4_AD11P_66, J26 IO_L15N_T2L_N5_AD11N_66, K18 IO_L1N_T0L_N1_DBC_66, K20 IO_L6N_T0U_N11_AD6N_66, K21 IO_L5P_T0U_N8_AD14P_66, K22 IO_L11P_T1U_N8_GC_66, K23 IO_L11N_T1U_N9_GC_66, K25 IO_L9P_T1L_N4_AD12P_66, K26 IO_L9N_T1L_N5_AD12N_66, L18 IO_L1P_T0L_N0_DBC_66, L19 IO_L4N_T0U_N7_DBC_AD7N_66, L20 IO_L6P_T0U_N10_AD6P_66, L22 IO_L7P_T1L_N0_QBC_AD13P_66, L23 IO_L7N_T1L_N1_QBC_AD13N_66, L24 IO_L10P_T1U_N6_QBC_AD4P_66, L25 IO_L10N_T1U_N7_QBC_AD4N_66, M19 IO_L4P_T0U_N6_DBC_AD7P_66, M20 IO_L2P_T0L_N2_66, M21 IO_L2N_T0L_N3_66, M22 IO_T0U_N12_VRP_66, M24 IO_T1U_N12_66, M25 IO_L8P_T1L_N2_AD5P_66, M26 IO_L8N_T1L_N3_AD5N_66
part D pins: A15 IO_L17N_T2U_N9_AD10N_67, A17 IO_L16P_T2U_N6_QBC_AD3P_67, A18 IO_L16N_T2U_N7_QBC_AD3N_67, A19 IO_L18P_T2U_N10_AD2P_67, A20 IO_L18N_T2U_N11_AD2N_67, A22 IO_L19P_T3L_N0_DBC_AD9P_67, A23 IO_L19N_T3L_N1_DBC_AD9N_67, A24 IO_L23P_T3U_N8_67, A25 IO_L23N_T3U_N9_67, B15 IO_L17P_T2U_N8_AD10P_67, B16 IO_T2U_N12_67, B17 IO_L15N_T2L_N5_AD11N_67, B19 IO_L14P_T2L_N2_GC_67, B20 IO_L14N_T2L_N3_GC_67, B21 IO_L22N_T3U_N7_DBC_AD0N_67, B22 IO_L24N_T3U_N11_67, B24 IO_L21N_T3L_N5_AD8N_67, C16 IO_L6N_T0U_N11_AD6N_67, C17 IO_L15P_T2L_N4_AD11P_67, C18 IO_L13P_T2L_N0_GC_QBC_67, C19 IO_L13N_T2L_N1_GC_QBC_67, C21 IO_L22P_T3U_N6_DBC_AD0P_67, C22 IO_L24P_T3U_N10_67, C23 IO_L21P_T3L_N4_AD8P_67, D15 IO_L3N_T0L_N5_AD15N_67, D16 IO_L6P_T0U_N10_AD6P_67, D18 IO_L11N_T1U_N9_GC_67, D19 IO_L12P_T1U_N10_GC_67, D20 IO_L12N_T1U_N11_GC_67, D21 IO_L20N_T3L_N3_AD1N_67, E15 IO_L3P_T0L_N4_AD15P_67, E16 IO_L4P_T0U_N6_DBC_AD7P_67, E17 IO_L4N_T0U_N7_DBC_AD7N_67, E18 IO_L11P_T1U_N8_GC_67, E20 IO_L10N_T1U_N7_QBC_AD4N_67, E21 IO_L20P_T3L_N2_AD1P_67, E22 IO_T3U_N12_67, F15 IO_L1N_T0L_N1_DBC_67, F17 IO_T0U_N12_VRP_67, F18 IO_L8P_T1L_N2_AD5P_67, F19 IO_L8N_T1L_N3_AD5N_67, F20 IO_L10P_T1U_N6_QBC_AD4P_67, G15 IO_L1P_T0L_N0_DBC_67, G16 IO_L5N_T0U_N9_AD14N_67, G17 IO_L2N_T0L_N3_67, G19 IO_T1U_N12_67, G20 IO_L9P_T1L_N4_AD12P_67, G21 IO_L9N_T1L_N5_AD12N_67, H16 IO_L5P_T0U_N8_AD14P_67, H17 IO_L2P_T0L_N2_67, H18 IO_L7P_T1L_N0_QBC_AD13P_67, H19 IO_L7N_T1L_N1_QBC_AD13N_67
part E pins: AA13 IO_L11N_AD1N_84, AA14 IO_L8P_HDGC_AD4P_84, AA15 IO_L7N_HDGC_AD5N_84, AB14 IO_L8N_HDGC_AD4N_84, AB15 IO_L6P_HDGC_AD6P_84, AB16 IO_L6N_HDGC_AD6N_84, AC13 IO_L5P_HDGC_AD7P_84, AC14 IO_L5N_HDGC_AD7N_84, AD13 IO_L4P_AD8P_84, AD14 IO_L4N_AD8N_84, AD15 IO_L3P_AD9P_84, AE13 IO_L2P_AD10P_84, AE15 IO_L3N_AD9N_84, AF13 IO_L2N_AD10N_84, AF14 IO_L1P_AD11P_84, AF15 IO_L1N_AD11N_84, W12 IO_L12P_AD0P_84, W13 IO_L12N_AD0N_84, W14 IO_L10P_AD2P_84, W15 IO_L10N_AD2N_84, W16 IO_L9P_AD3P_84, Y13 IO_L11P_AD1P_84, Y15 IO_L7P_HDGC_AD5P_84, Y16 IO_L9N_AD3N_84
part F pins: A9 IO_L10N_AD2N_86, A10 IO_L11N_AD1N_86, B9 IO_L10P_AD2P_86, B10 IO_L11P_AD1P_86, B11 IO_L12N_AD0N_86, C9 IO_L9N_AD3N_86, C11 IO_L12P_AD0P_86, D9 IO_L9P_AD3P_86, D10 IO_L8N_HDGC_AD4N_86, D11 IO_L8P_HDGC_AD4P_86, E10 IO_L7N_HDGC_AD5N_86, E11 IO_L7P_HDGC_AD5P_86, F9 IO_L6N_HDGC_AD6N_86, F10 IO_L6P_HDGC_AD6P_86, G9 IO_L5N_HDGC_AD7N_86, G10 IO_L5P_HDGC_AD7P_86, G11 IO_L4N_AD8N_86, H9 IO_L3N_AD9N_86, H11 IO_L4P_AD8P_86, J9 IO_L3P_AD9P_86, J10 IO_L2N_AD10N_86, J11 IO_L2P_AD10P_86, K9 IO_L1N_AD11N_86, K10 IO_L1P_AD11P_86
part G pins: A12 IO_L11N_AD9N_87, A13 IO_L11P_AD9P_87, A14 IO_L12N_AD8N_87, B12 IO_L10N_AD10N_87, B14 IO_L12P_AD8P_87, C12 IO_L10P_AD10P_87, C13 IO_L9N_AD11N_87, C14 IO_L9P_AD11P_87, D13 IO_L8N_HDGC_87, D14 IO_L8P_HDGC_87, E12 IO_L7N_HDGC_87, E13 IO_L7P_HDGC_87, F12 IO_L5N_HDGC_87, F13 IO_L6N_HDGC_87, F14 IO_L6P_HDGC_87, G12 IO_L5P_HDGC_87, G14 IO_L3N_AD13N_87, H12 IO_L1N_AD15N_87, H13 IO_L2N_AD14N_87, H14 IO_L3P_AD13P_87, J12 IO_L1P_AD15P_87, J13 IO_L2P_AD14P_87, J14 IO_L4N_AD12N_87, J15 IO_L4P_AD12P_87
part H pins: AB1 MGTYRXN3_224, AB2 MGTYRXP3_224, AB6 MGTREFCLK0N_224, AB7 MGTREFCLK0P_224, AC4 MGTYTXN3_224, AC5 MGTYTXP3_224, AD1 MGTYRXN2_224, AD2 MGTYRXP2_224, AD6 MGTYTXN2_224, AD7 MGTYTXP2_224, AE3 MGTYRXN1_224, AE4 MGTYRXP1_224, AE8 MGTYTXN1_224, AE9 MGTYTXP1_224, AF1 MGTYRXN0_224, AF2 MGTYRXP0_224, AF6 MGTYTXN0_224, AF7 MGTYTXP0_224, Y6 MGTREFCLK1N_224, Y7 MGTREFCLK1P_224
part I pins: AA4 MGTYTXN0_225, AA5 MGTYTXP0_225, P1 MGTYRXN3_225, P2 MGTYRXP3_225, R4 MGTYTXN3_225, R5 MGTYTXP3_225, T1 MGTYRXN2_225, T2 MGTYRXP2_225, T6 MGTREFCLK1N_225, T7 MGTREFCLK1P_225, U4 MGTYTXN2_225, U5 MGTYTXP2_225, V1 MGTYRXN1_225, V2 MGTYRXP1_225, V6 MGTREFCLK0N_225, V7 MGTREFCLK0P_225, W4 MGTYTXN1_225, W5 MGTYTXP1_225, Y1 MGTYRXN0_225, Y2 MGTYRXP0_225
part J pins: F1 MGTYRXN3_226, F2 MGTYRXP3_226, G4 MGTYTXN3_226, G5 MGTYTXP3_226, H1 MGTYRXN2_226, H2 MGTYRXP2_226, J4 MGTYTXN2_226, J5 MGTYTXP2_226, K1 MGTYRXN1_226, K2 MGTYRXP1_226, L4 MGTYTXN1_226, L5 MGTYTXP1_226, M1 MGTYRXN0_226, M2 MGTYRXP0_226, M6 MGTREFCLK1N_226, M7 MGTREFCLK1P_226, N4 MGTYTXN0_226, N5 MGTYTXP0_226, P6 MGTREFCLK0N_226, P7 MGTREFCLK0P_226
part K pins: A3 MGTYRXN3_227, A4 MGTYRXP3_227, B1 MGTYRXN2_227, B2 MGTYRXP2_227, B6 MGTYTXN3_227, B7 MGTYTXP3_227, C3 MGTYRXN1_227, C4 MGTYRXP1_227, D1 MGTYRXN0_227, D2 MGTYRXP0_227, D6 MGTYTXN2_227, D7 MGTYTXP2_227, E4 MGTYTXN1_227, E5 MGTYTXP1_227, F6 MGTYTXN0_227, F7 MGTYTXP0_227, H6 MGTREFCLK1N_227, H7 MGTREFCLK1P_227, K6 MGTREFCLK0N_227, K7 MGTREFCLK0P_227
part L pins: AA9 M1_0, AA10 M0_0, AA11 VCCO_0, AA12 RDWR_FCS_B_0, AB9 PROGRAM_B_0, AB10 TMS_0, AB11 DONE_0, AB12 TDI_0, AC11 D02_0, AC12 D01_DIN_0, AD11 D00_MOSI_0, AD12 VCCO_0, AE11 D03_0, AE12 TCK_0, AF12 M2_0, W9 PUDC_B_0, W10 INIT_B_0, Y10 TDO_0, Y11 CCLK_0
part M pins: AD8 MGTAVTTRCAL_R, AD9 MGTRREF_R, N13 GNDADC, N14 VCCADC, P13 VREFN, P14 VP, R13 VN, R14 VREFP, T13 DXN, T14 DXP, W11 RSVDGND, Y9 VBATT, Y12 POR_OVERRIDE
part N pins: A1 GND, A2 GND, A5 GND, A6 GND, A8 GND, A11 GND, A16 GND, A21 GND, A26 GND, AA1 GND, AA2 GND, AA3 GND, AA6 GND, AA8 GND, AA16 GND, AA26 GND, AB3 GND, AB4 GND, AB8 GND, AB13 GND, AB23 GND, AC1 GND, AC2 GND, AC3 GND, AC6 GND, AC8 GND, AC9 GND, AC10 GND, AC20 GND, AC25 GND, AD3 GND, AD4 GND, AD5 GND, AD10 GND, AD17 GND, AE1 GND, AE2 GND, AE5 GND, AE6 GND, AE10 GND, AE14 GND, AE19 GND, AE24 GND, AF3 GND, AF4 GND, AF5 GND, AF8 GND, AF9 GND, AF10 GND, AF11 GND, AF16 GND, AF21 GND, AF26 GND, B3 GND, B4 GND, B5 GND, B8 GND, B13 GND, B18 GND, B23 GND, C1 GND, C2 GND, C5 GND, C6 GND, C8 GND, C10 GND, C15 GND, C25 GND, D3 GND, D4 GND, D5 GND, D8 GND, D12 GND, D22 GND, E1 GND, E2 GND, E3 GND, E6 GND, E8 GND, E19 GND, F3 GND, F4 GND, F8 GND, F11 GND, F16 GND, F21 GND, F26 GND, G1 GND, G2 GND, G3 GND, G6 GND, G8 GND, G13 GND, G23 GND, H3 GND, H4 GND, H8 GND, H20 GND
part O pins: J1 GND, J2 GND, J3 GND, J6 GND, J8 GND, J17 GND, K3 GND, K4 GND, K8 GND, K12 GND, K14 GND, K16 GND, K19 GND, K24 GND, L1 GND, L2 GND, L3 GND, L6 GND, L8 GND, L11 GND, L13 GND, L15 GND, L17 GND, L21 GND, L26 GND, M3 GND, M4 GND, M8 GND, M10 GND, M12 GND, M14 GND, M16 GND, M23 GND, N1 GND, N2 GND, N3 GND, N6 GND, N8 GND, N11 GND, N15 GND, N17 GND, N20 GND, N25 GND, P3 GND, P4 GND, P8 GND, P10 GND, P12 GND, P16 GND, R1 GND, R2 GND, R3 GND, R6 GND, R8 GND, R11 GND, R15 GND, R17 GND, R19 GND, R24 GND, T3 GND, T4 GND, T8 GND, T10 GND, T12 GND, T16 GND, T21 GND, T26 GND, U1 GND, U2 GND, U3 GND, U6 GND, U8 GND, U11 GND, U13 GND, U15 GND, U17 GND, U18 GND, V3 GND, V4 GND, V8 GND, V10 GND, V12 GND, V14 GND, V16 GND, V20 GND, V25 GND, W1 GND, W2 GND, W3 GND, W6 GND, W8 GND, W17 GND, W22 GND, Y3 GND, Y4 GND, Y8 GND, Y19 GND
part P pins: A7 MGTAVTT_R, AA7 MGTAVCC_R, AB5 MGTAVTT_R, AC7 MGTAVCC_R, AE7 MGTAVTT_R, C7 MGTAVTT_R, E7 MGTAVTT_R, F5 MGTAVTT_R, G7 MGTAVTT_R, H5 MGTAVTT_R, J7 MGTAVCC_R, K5 MGTAVTT_R, K11 VCCINT, K13 VCCINT, K15 VCCINT, K17 VCCINT, L7 MGTAVCC_R, L9 VCCINT_IO, L10 VCCINT, L12 VCCINT, L14 VCCINT, L16 VCCINT, M5 MGTAVTT_R, M9 VCCINT_IO, M11 VCCINT, M13 VCCINT, M15 VCCINT, M17 VCCINT, M18 VCCAUX, N7 MGTAVCC_R, N9 VCCINT_IO, N10 VCCINT, N12 VCCINT, N16 VCCINT, N18 VCCAUX, P5 MGTAVTT_R, P9 VCCINT_IO, P11 VCCINT, P15 VCCINT, P17 VCCINT, P18 VCCAUX_IO, R7 MGTVCCAUX_R, R9 VCCBRAM, R10 VCCINT, R12 VCCINT, R16 VCCINT, R18 VCCAUX_IO, T5 MGTAVTT_R, T9 VCCBRAM, T11 VCCINT, T15 VCCINT, T17 VCCINT, T18 VCCAUX_IO, U7 MGTVCCAUX_R, U9 VCCBRAM, U10 VCCINT, U12 VCCINT, U14 VCCINT, U16 VCCINT, V5 MGTAVTT_R, V9 VCCBRAM, V11 VCCINT, V13 VCCINT, V15 VCCINT, V17 VCCINT, W7 MGTAVCC_R, Y5 MGTAVTT_R
part Q pins: AA21 VCCO_64, AB18 VCCO_64, AC15 VCCO_84, AD22 VCCO_64, C20 VCCO_67, D17 VCCO_67, E9 VCCO_86, E14 VCCO_87, E24 VCCO_66, G18 VCCO_67, H10 VCCO_86, H15 VCCO_87, H25 VCCO_66, J16 VREF_67, J18 VREF_66, J22 VCCO_66, P22 VCCO_65, U23 VCCO_65, V18 VREF_65, W18 VREF_64, Y14 VCCO_84, Y24 VCCO_65
part A text: BANK64
part B text: BANK65
part C text: BANK66
part D text: BANK67
part E text: BANK84
part F text: BANK86
part G text: BANK87
part H text: BANK224
part I text: BANK225
part J text: BANK226
part K text: BANK227
part L text: BANK0

## XCL206F
designator U?
footprint CL-2025
part A pins: 1 LX, 2 VSS, 3 FB, 4 CE, 5 VSS, 6 VIN, 9 EP
part B pins: 7, 8

## ZJY240K-IG01
designator LCD?  (value not drawn)
中景园2.4寸TFT LCD显示屏240x320高清IPS显示屏ST7789
footprint ZJY240K-IG01
pins: 1 GND, 2 RESET, 3 SCL, 4 D/C, 5 CS, 6 SDA, 7 SDO, 8 GND, 9 VCC, 10 LEDA, 11 LEDK, 12 NC, 13 NC, 14 NC, 15 NC, 16 NC, 17 NC, 18 NC